# Altium schematic symbol library Schlib_Xilinx.SchLib: 18 symbols (part 1 of 5)
Pins are listed as number, name and electrical type; pins without a type are passive.

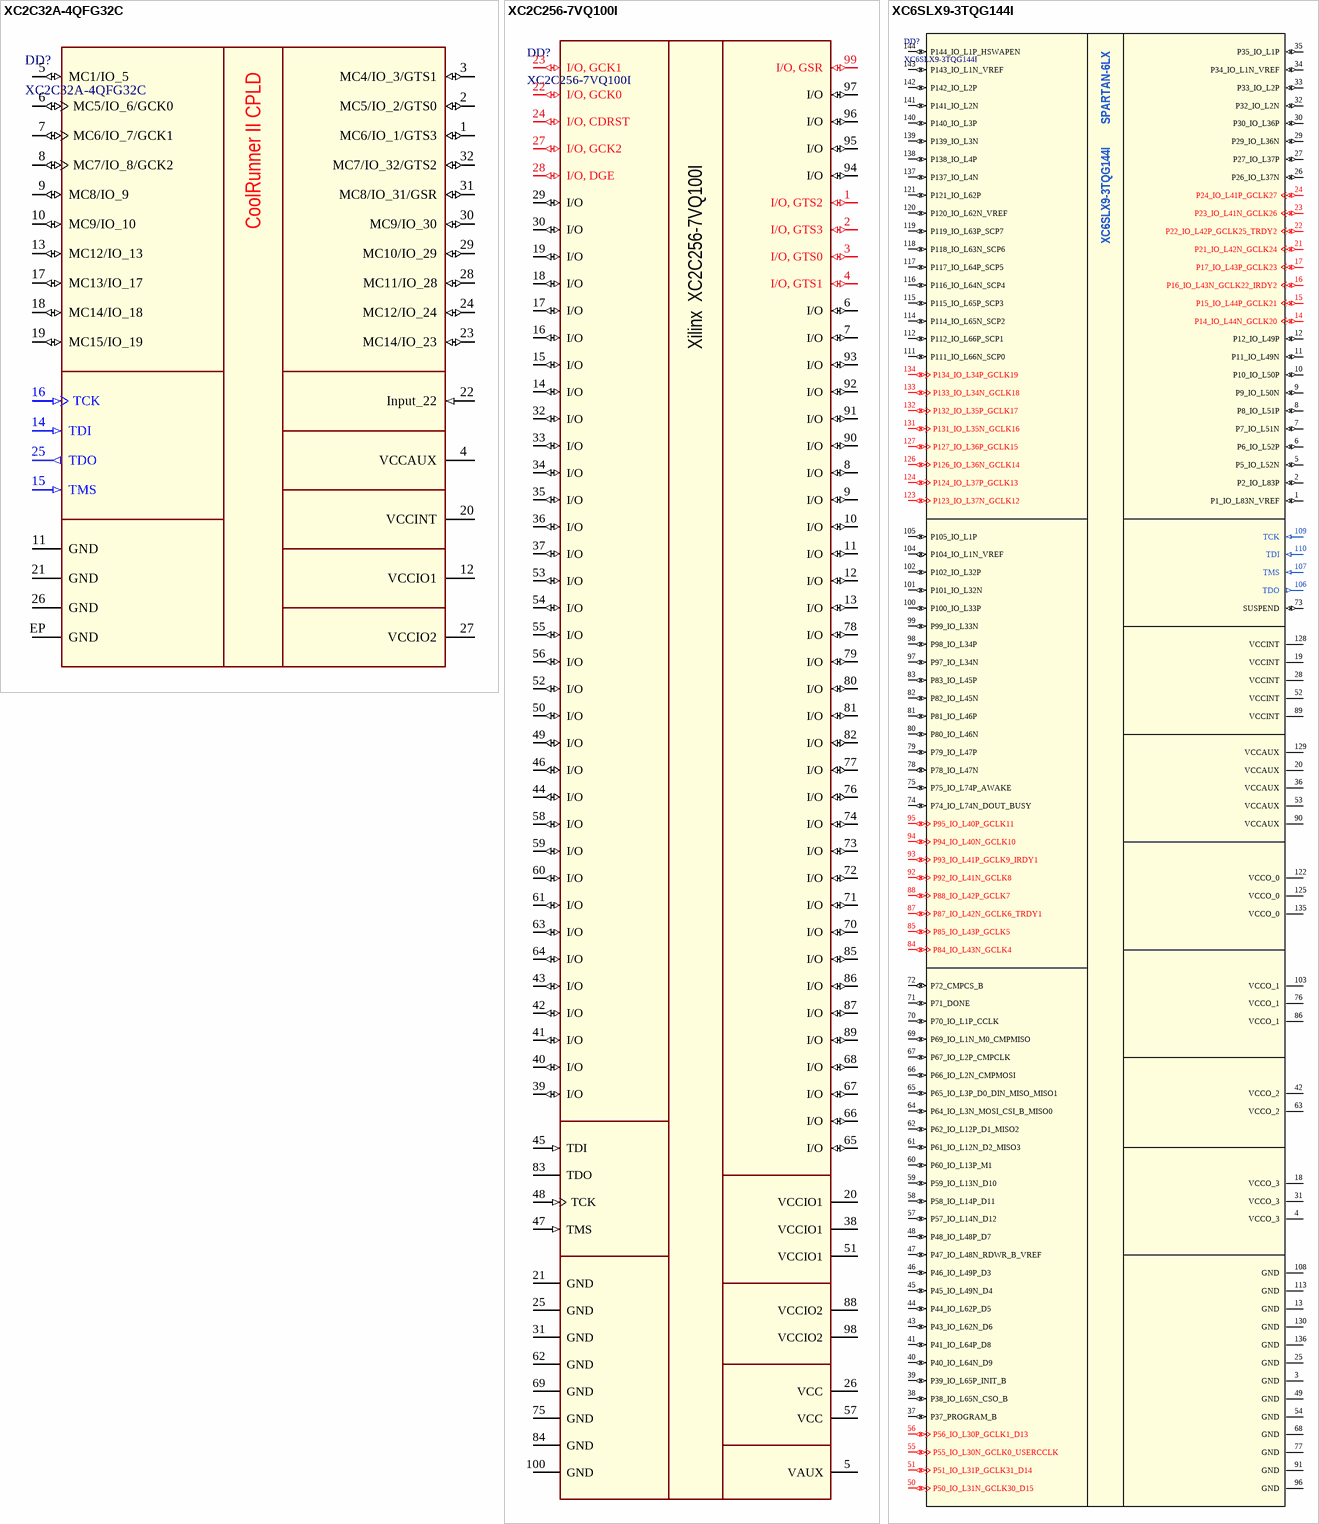
[diagram p0: symbols XC2C32A-4QFG32C to XC6SLX9-3TQG144I]

## XC2C32A-4QFG32C
designator DD?
32 Macrocell CoolRunner II CPLD; Manufacturer: Xilinx; Speed Grade: -4; Part Number: XC2C32A-4QFG32C; ComponentLink1Description: Datasheet; ComponentLink1URL: http://www.xilinx.com/support/documentation/data_sheets/ds180_7Series_Overview.pdf; ComponentLink2Description: Package Specification; ComponentLink2URL: http://www.xilinx.com/support/documentation/user_guides/ug475_7Series_Pkg_Pinout.pdf
footprint QFN32 (QFN, 32-Leads, Body 5.00x5.00mm, Pitch 0.50mm, Thermal Pad 3.50x3.50mm, IPC Medium Density)
pins: 1 MC6/IO_1/GTS3 (io), 2 MC5/IO_2/GTS0 (io), 3 MC4/IO_3/GTS1 (io), 4 VCCAUX (power), 5 MC1/IO_5 (io), 6 MC5/IO_6/GCK0 (io), 7 MC6/IO_7/GCK1 (io), 8 MC7/IO_8/GCK2 (io), 9 MC8/IO_9 (io), 10 MC9/IO_10 (io), 11 GND (power), 12 VCCIO1 (power), 13 MC12/IO_13 (io), 14 TDI (in), 15 TMS (in), 16 TCK (in), 17 MC13/IO_17 (io), 18 MC14/IO_18 (io), 19 MC15/IO_19 (io), 20 VCCINT (power), 21 GND (power), 22 Input_22 (in), 23 MC14/IO_23 (io), 24 MC12/IO_24 (io), 25 TDO (out), 26 GND (power), 27 VCCIO2 (power), 28 MC11/IO_28 (io), 29 MC10/IO_29 (io), 30 MC9/IO_30 (io), 31 MC8/IO_31/GSR (io), 32 MC7/IO_32/GTS2 (io), EP GND (power)
text: CoolRunner II CPLD

## XC2C256-7VQ100I
designator DD?
256 Macrocell CoolRunner II CPLD; Manufacturer: Xilinx; Speed Grade: -7; Part Number: XC2C256-7VQ100I; ComponentLink1Description: Datasheet; ComponentLink1URL: http://www.xilinx.com/support/documentation/data_sheets/ds180_7Series_Overview.pdf; ComponentLink2Description: Package Specification; ComponentLink2URL: http://www.xilinx.com/support/documentation/user_guides/ug475_7Series_Pkg_Pinout.pdf
footprint TQFP100 (Thin QFP, 100-Leads, Body 14x14mm, Pitch 0.5mm, IPC Low Density)
pins: 1 I/O, GTS2 (io), 2 I/O, GTS3 (io), 3 I/O, GTS0 (io), 4 I/O, GTS1 (io), 5 VAUX (power), 6 I/O (io), 7 I/O (io), 8 I/O (io), 9 I/O (io), 10 I/O (io), 11 I/O (io), 12 I/O (io), 13 I/O (io), 14 I/O (io), 15 I/O (io), 16 I/O (io), 17 I/O (io), 18 I/O (io), 19 I/O (io), 20 VCCIO1 (power), 21 GND (power), 22 I/O, GCK0 (io), 23 I/O, GCK1 (io), 24 I/O, CDRST (io), 25 GND (power), 26 VCC (power), 27 I/O, GCK2 (io), 28 I/O, DGE (io), 29 I/O (io), 30 I/O (io), 31 GND (power), 32 I/O (io), 33 I/O (io), 34 I/O (io), 35 I/O (io), 36 I/O (io), 37 I/O (io), 38 VCCIO1 (power), 39 I/O (io), 40 I/O (io), 41 I/O (io), 42 I/O (io), 43 I/O (io), 44 I/O (io), 45 TDI (in), 46 I/O (io), 47 TMS (in), 48 TCK (in), 49 I/O (io), 50 I/O (io), 51 VCCIO1 (power), 52 I/O (io), 53 I/O (io), 54 I/O (io), 55 I/O (io), 56 I/O (io), 57 VCC (power), 58 I/O (io), 59 I/O (io), 60 I/O (io), 61 I/O (io), 62 GND (power), 63 I/O (io), 64 I/O (io), 65 I/O (io), 66 I/O (io), 67 I/O (io), 68 I/O (io), 69 GND (power), 70 I/O (io), 71 I/O (io), 72 I/O (io), 73 I/O (io), 74 I/O (io), 75 GND (power), 76 I/O (io), 77 I/O (io), 78 I/O (io), 79 I/O (io), 80 I/O (io), 81 I/O (io), 82 I/O (io), 83 TDO, 84 GND (power), 85 I/O (io), 86 I/O (io), 87 I/O (io), 88 VCCIO2 (power), 89 I/O (io), 90 I/O (io), 91 I/O (io), 92 I/O (io), 93 I/O (io), 94 I/O (io), 95 I/O (io), 96 I/O (io), 97 I/O (io), 98 VCCIO2 (power), 99 I/O, GSR (io), 100 GND (power)
text: Xilinx  XC2C256-7VQ100I

## XC6SLX9-3TQG144I
designator DD?
FPGA Spartan-6 LX; Manufacturer: Xilinx; Speed Grade: -3; Part Number: XC6SLX9-3TQG144I; ComponentLink1Description: Datasheet; ComponentLink1URL: http://www.xilinx.com/support/documentation/data_sheets/ds180_7Series_Overview.pdf; ComponentLink2Description: Package Specification; ComponentLink2URL: http://www.xilinx.com/support/documentation/user_guides/ug475_7Series_Pkg_Pinout.pdf
footprint LQFP-144 (TSQFP, 144-Leads, Body 20,00x20,00mm, Pitch 0,50mm, IPC Medium Density)
pins: 1 P1_IO_L83N_VREF (io), 2 P2_IO_L83P (io), 3 GND (power), 4 VCCO_3 (power), 5 P5_IO_L52N (io), 6 P6_IO_L52P (io), 7 P7_IO_L51N (io), 8 P8_IO_L51P (io), 9 P9_IO_L50N (io), 10 P10_IO_L50P (io), 11 P11_IO_L49N (io), 12 P12_IO_L49P (io), 13 GND (power), 14 P14_IO_L44N_GCLK20 (io), 15 P15_IO_L44P_GCLK21 (io), 16 P16_IO_L43N_GCLK22_IRDY2 (io), 17 P17_IO_L43P_GCLK23 (io), 18 VCCO_3 (power), 19 VCCINT (power), 20 VCCAUX (power), 21 P21_IO_L42N_GCLK24 (io), 22 P22_IO_L42P_GCLK25_TRDY2 (io), 23 P23_IO_L41N_GCLK26 (io), 24 P24_IO_L41P_GCLK27 (io), 25 GND (power), 26 P26_IO_L37N (io), 27 P27_IO_L37P (io), 28 VCCINT (power), 29 P29_IO_L36N (io), 30 P30_IO_L36P (io), 31 VCCO_3 (power), 32 P32_IO_L2N (io), 33 P33_IO_L2P (io), 34 P34_IO_L1N_VREF (io), 35 P35_IO_L1P (io), 36 VCCAUX (power), 37 P37_PROGRAM_B (io), 38 P38_IO_L65N_CSO_B (io), 39 P39_IO_L65P_INIT_B (io), 40 P40_IO_L64N_D9 (io), 41 P41_IO_L64P_D8 (io), 42 VCCO_2 (power), 43 P43_IO_L62N_D6 (io), 44 P44_IO_L62P_D5 (io), 45 P45_IO_L49N_D4 (io), 46 P46_IO_L49P_D3 (io), 47 P47_IO_L48N_RDWR_B_VREF (io), 48 P48_IO_L48P_D7 (io), 49 GND (power), 50 P50_IO_L31N_GCLK30_D15 (io), 51 P51_IO_L31P_GCLK31_D14 (io), 52 VCCINT (power), 53 VCCAUX (power), 54 GND (power), 55 P55_IO_L30N_GCLK0_USERCCLK (io), 56 P56_IO_L30P_GCLK1_D13 (io), 57 P57_IO_L14N_D12 (io), 58 P58_IO_L14P_D11 (io), 59 P59_IO_L13N_D10 (io), 60 P60_IO_L13P_M1 (io), 61 P61_IO_L12N_D2_MISO3 (io), 62 P62_IO_L12P_D1_MISO2 (io), 63 VCCO_2 (power), 64 P64_IO_L3N_MOSI_CSI_B_MISO0 (io), 65 P65_IO_L3P_D0_DIN_MISO_MISO1 (io), 66 P66_IO_L2N_CMPMOSI (io), 67 P67_IO_L2P_CMPCLK (io), 68 GND (power), 69 P69_IO_L1N_M0_CMPMISO (io), 70 P70_IO_L1P_CCLK (io), 71 P71_DONE (io), 72 P72_CMPCS_B (io), 73 SUSPEND (io), 74 P74_IO_L74N_DOUT_BUSY (io), 75 P75_IO_L74P_AWAKE (io), 76 VCCO_1 (power), 77 GND (power), 78 P78_IO_L47N (io), 79 P79_IO_L47P (io), 80 P80_IO_L46N (io), 81 P81_IO_L46P (io), 82 P82_IO_L45N (io), 83 P83_IO_L45P (io), 84 P84_IO_L43N_GCLK4 (io), 85 P85_IO_L43P_GCLK5 (io), 86 VCCO_1 (power), 87 P87_IO_L42N_GCLK6_TRDY1 (io), 88 P88_IO_L42P_GCLK7 (io), 89 VCCINT (power), 90 VCCAUX (power), 91 GND (power), 92 P92_IO_L41N_GCLK8 (io), 93 P93_IO_L41P_GCLK9_IRDY1 (io), 94 P94_IO_L40N_GCLK10 (io), 95 P95_IO_L40P_GCLK11 (io), 96 GND (power), 97 P97_IO_L34N (io), 98 P98_IO_L34P (io), 99 P99_IO_L33N (io), 100 P100_IO_L33P (io), 101 P101_IO_L32N (io), 102 P102_IO_L32P (io), 103 VCCO_1 (power), 104 P104_IO_L1N_VREF (io), 105 P105_IO_L1P (io), 106 TDO (out), 107 TMS (in), 108 GND (power), 109 TCK (in), 110 TDI (in), 111 P111_IO_L66N_SCP0 (io), 112 P112_IO_L66P_SCP1 (io), 113 GND (power), 114 P114_IO_L65N_SCP2 (io), 115 P115_IO_L65P_SCP3 (io), 116 P116_IO_L64N_SCP4 (io), 117 P117_IO_L64P_SCP5 (io), 118 P118_IO_L63N_SCP6 (io), 119 P119_IO_L63P_SCP7 (io), 120 P120_IO_L62N_VREF (io), 121 P121_IO_L62P (io), 122 VCCO_0 (power), 123 P123_IO_L37N_GCLK12 (io), 124 P124_IO_L37P_GCLK13 (io), 125 VCCO_0 (power), 126 P126_IO_L36N_GCLK14 (io), 127 P127_IO_L36P_GCLK15 (io), 128 VCCINT (power), 129 VCCAUX (power), 130 GND (power), 131 P131_IO_L35N_GCLK16 (io), 132 P132_IO_L35P_GCLK17 (io), 133 P133_IO_L34N_GCLK18 (io), 134 P134_IO_L34P_GCLK19 (io), 135 VCCO_0 (power), 136 GND (power), 137 P137_IO_L4N (io), 138 P138_IO_L4P (io), 139 P139_IO_L3N (io), 140 P140_IO_L3P (io), 141 P141_IO_L2N (io), 142 P142_IO_L2P (io), 143 P143_IO_L1N_VREF (io), 144 P144_IO_L1P_HSWAPEN (io)
text: SPARTAN-6LX

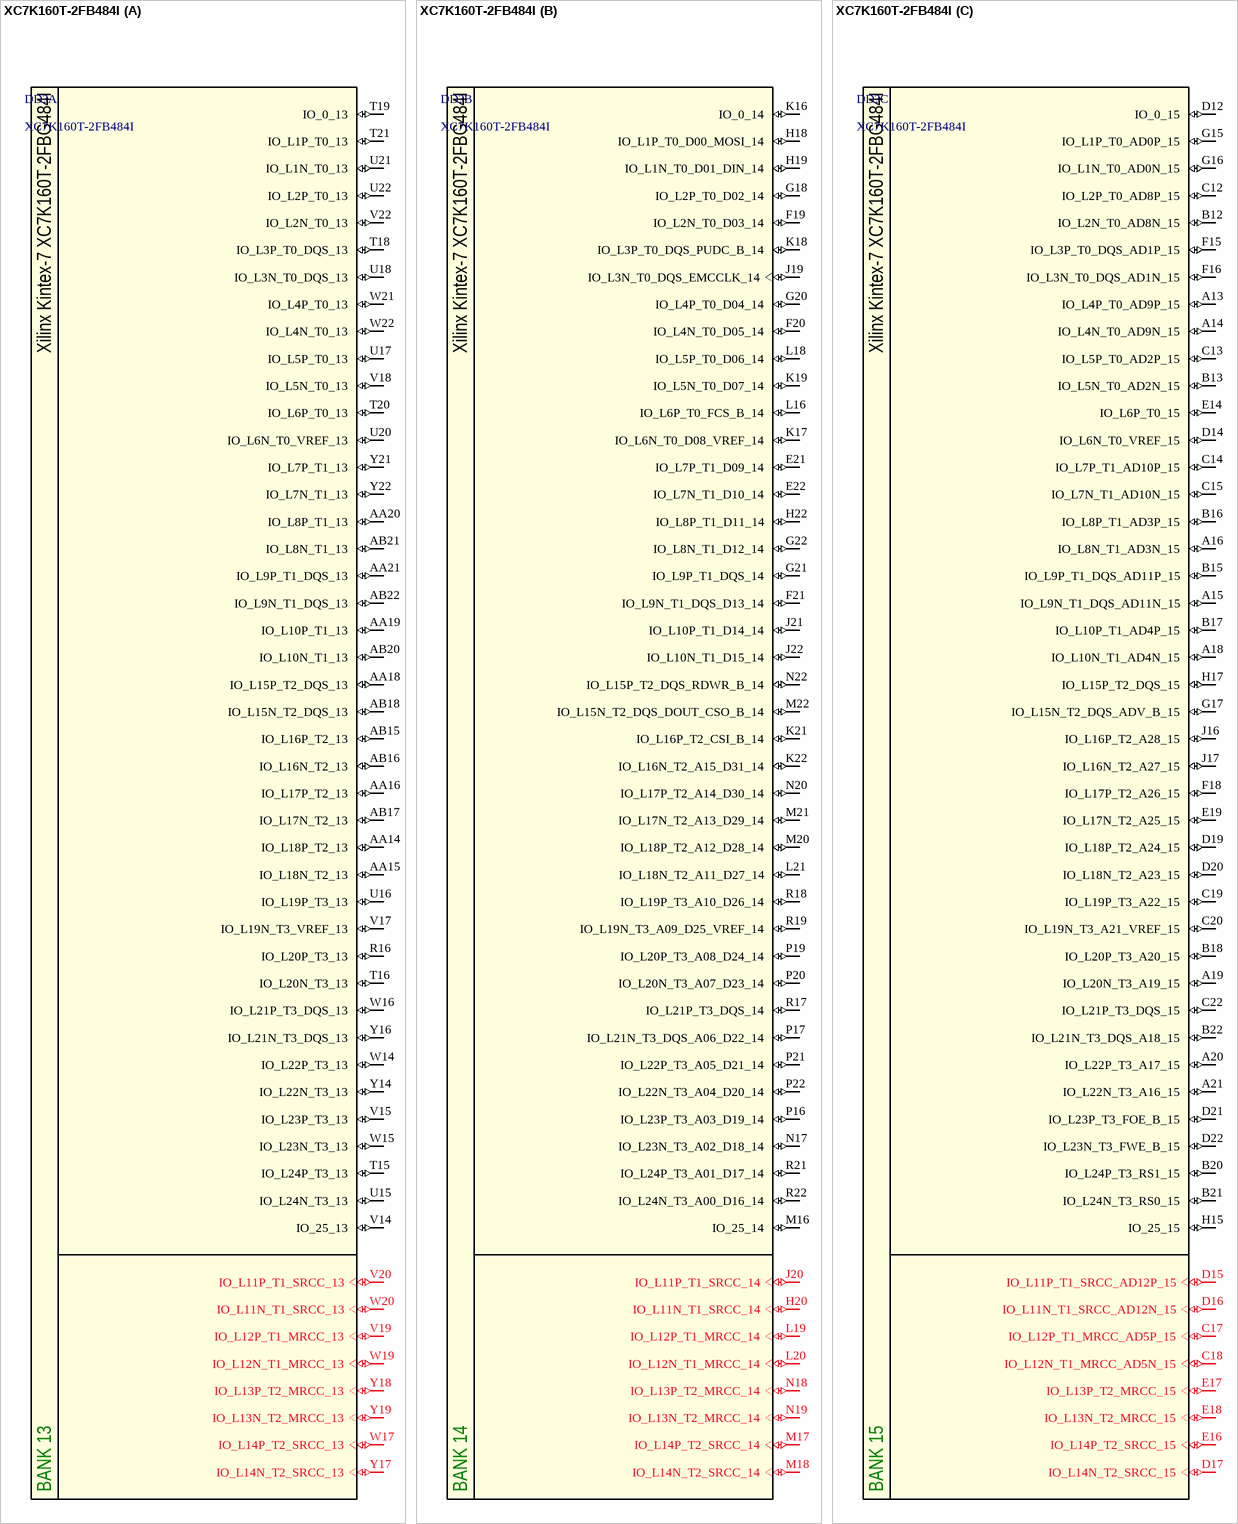
[diagram p1: symbol XC7K160T-2FB484I]

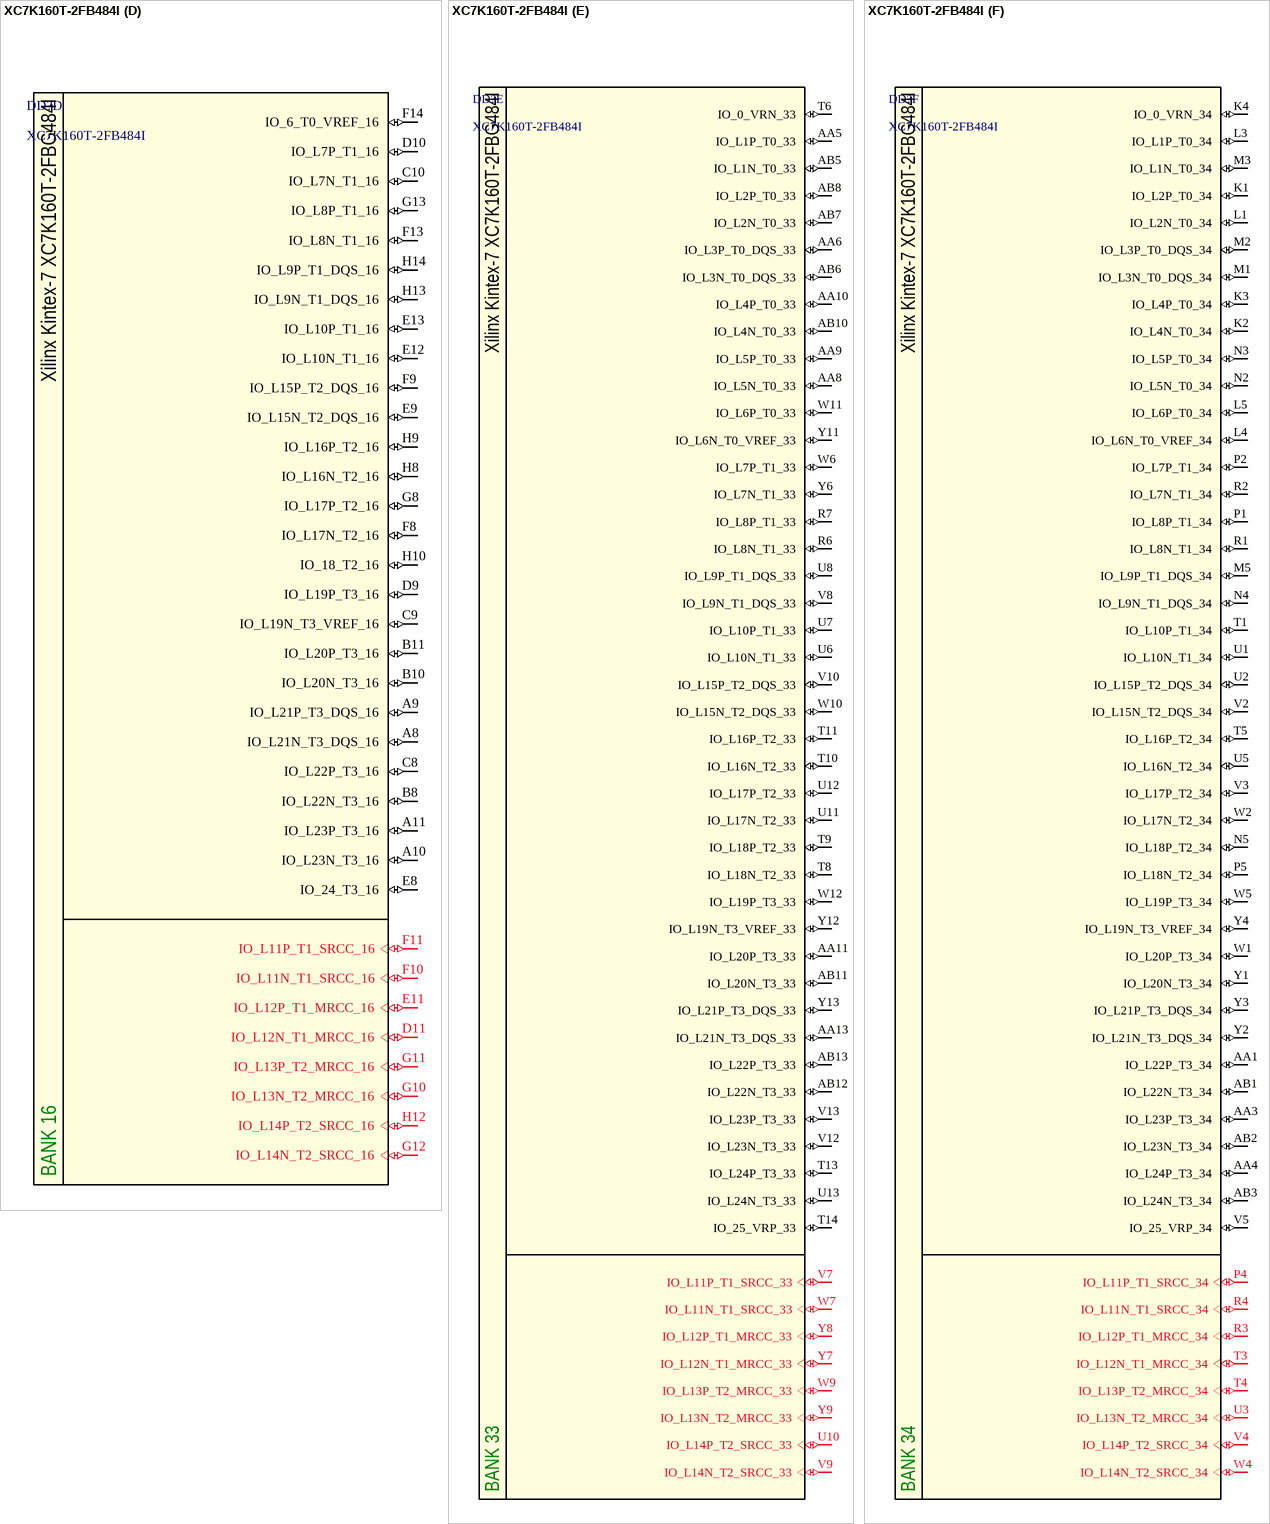
[diagram p2: symbol XC7K160T-2FB484I]

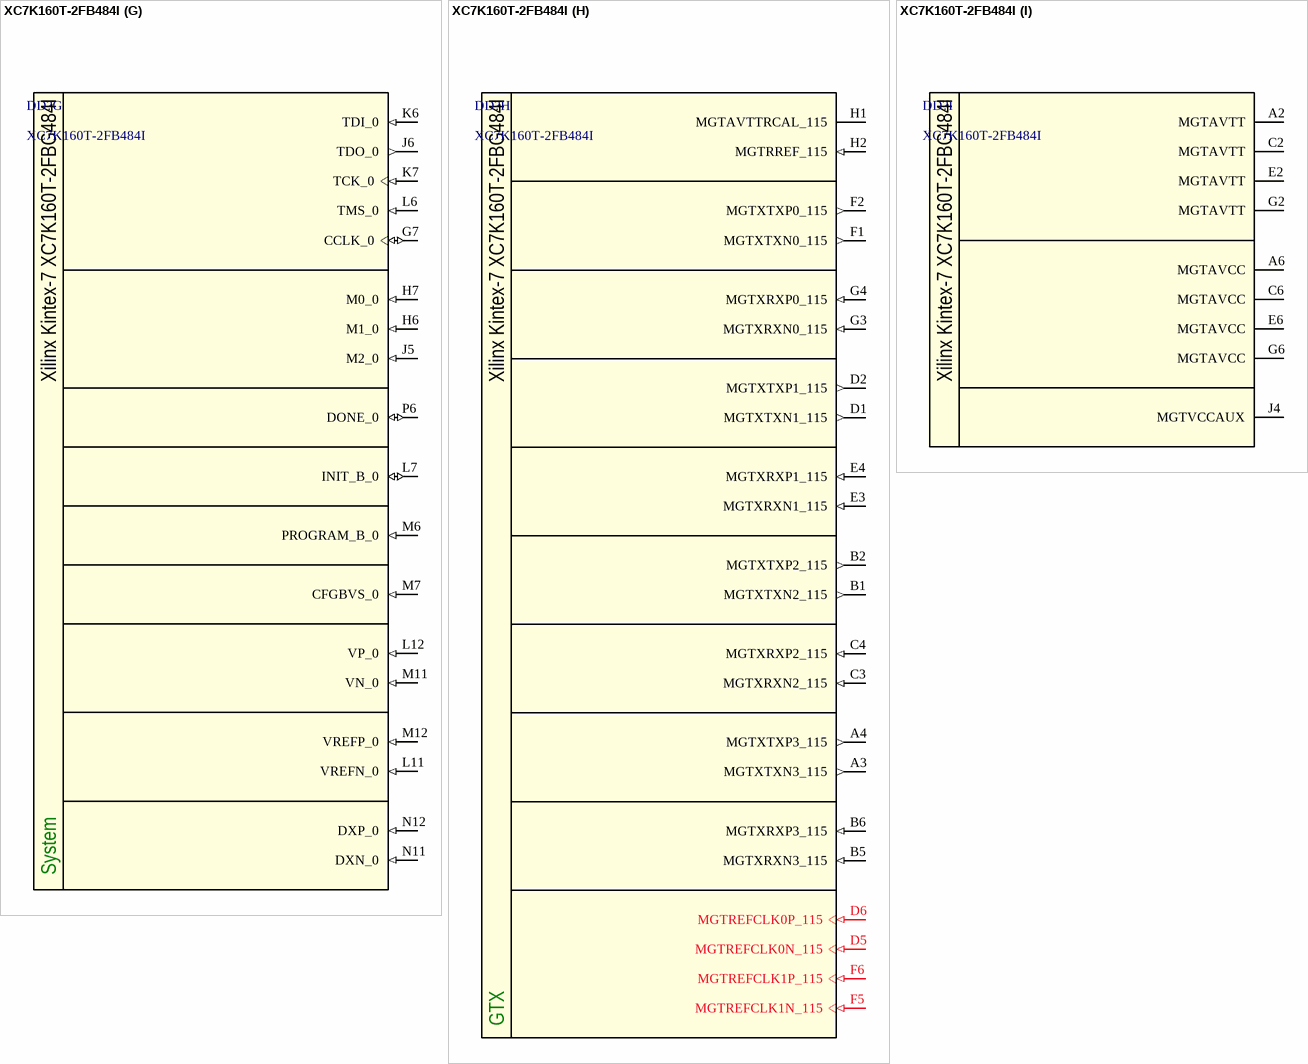
[diagram p3: symbol XC7K160T-2FB484I]

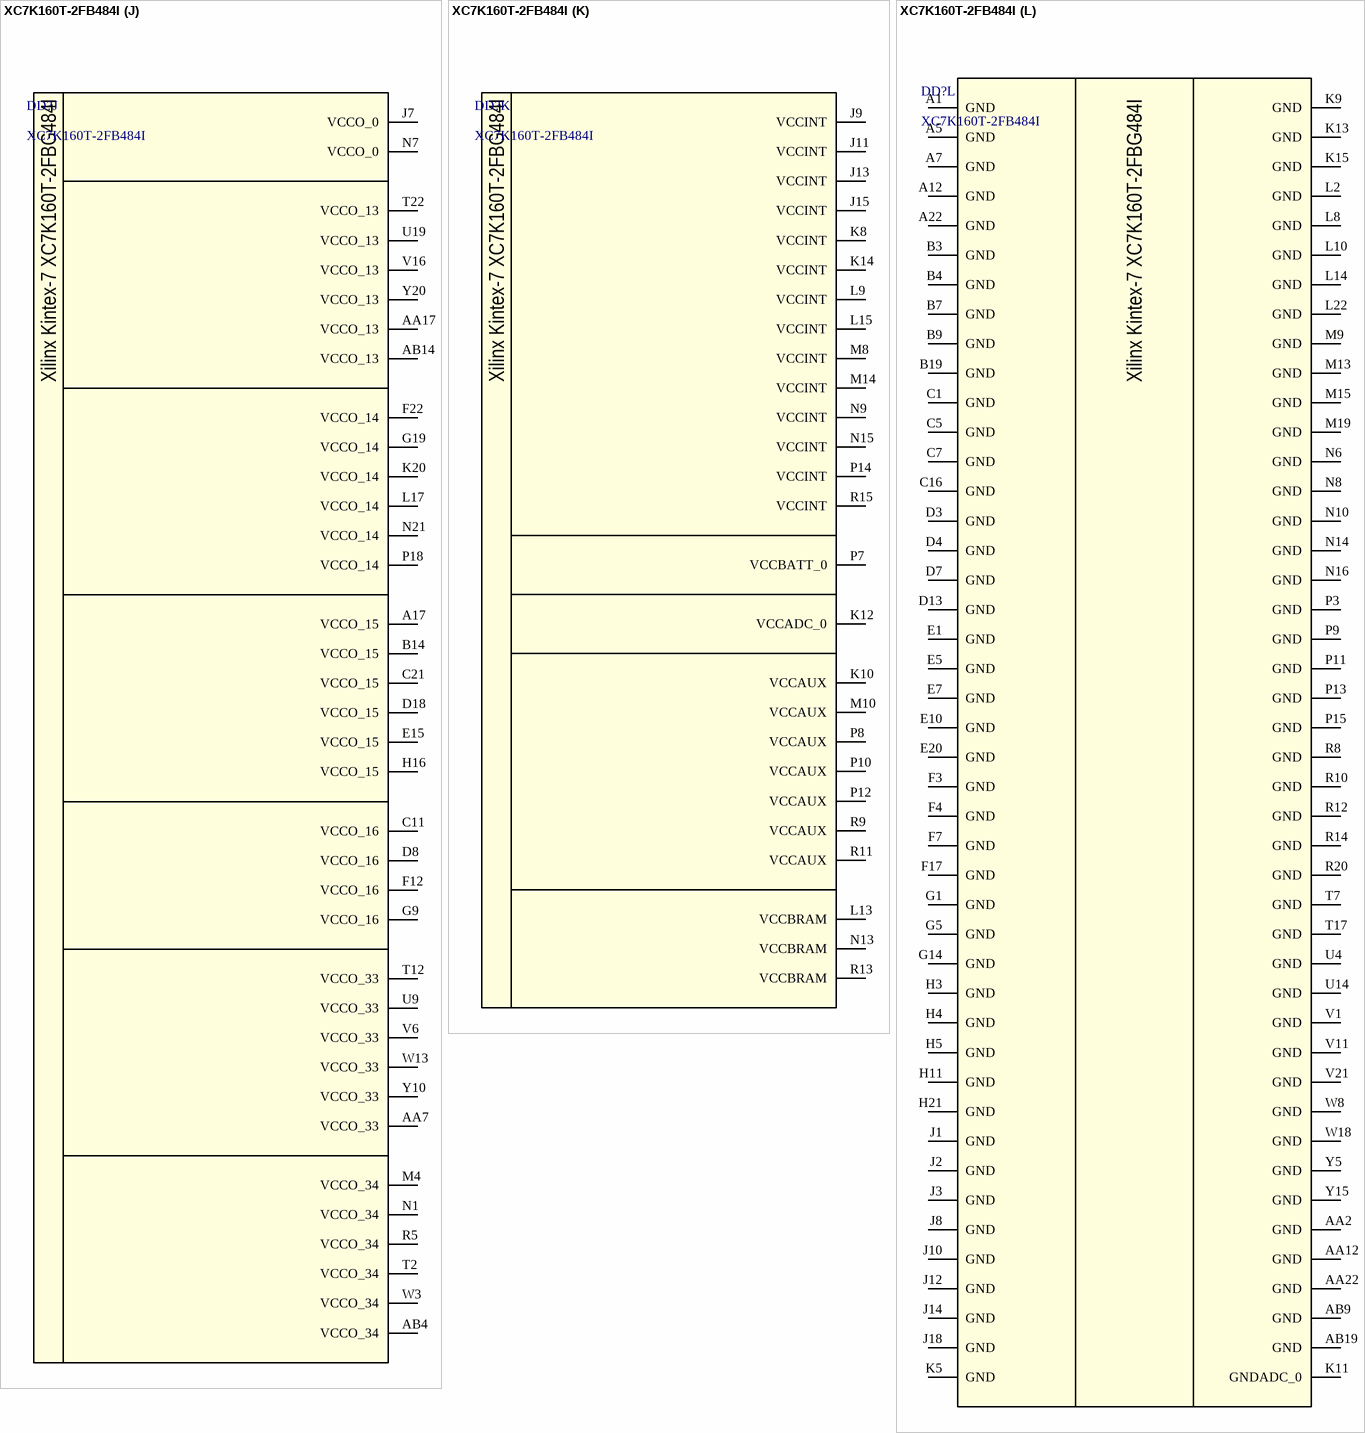
[diagram p4: symbol XC7K160T-2FB484I]

## XC7K160T-2FB484I
designator DD?
Kintex-7 FPGA, 285 User I/Os, 4 GTX, 484-Ball BGA, Speed Grade 2, Industrial Grade, Pb-Free; Manufacturer: Xilinx; GTX: 4; SelectIO HP: 100; SelectIO HR: 185; Speed Grade: -2; DatasheetVersion: v1.12; PackageVersion: Rev 1.8; PackageReference: FBG484; PackageDescription: 1.0 mm Pitch Flip-Chip Lidless BGA (FBG484); Generic Part Number: XC7K160T; Mounting Technology: Surface Mount; Code_JEDEC: MS-034; Part Number: XC7K160T-2FB484I; ComponentLink1Description: Datasheet; ComponentLink1URL: http://www.xilinx.com/support/documentation/data_sheets/ds180_7Series_Overview.pdf; ComponentLink2Description: Package Specification; ComponentLink2URL: http://www.xilinx.com/support/documentation/user_guides/ug475_7Series_Pkg_Pinout.pdf
footprint FB484 (FB484, Kintex-7 FPGAs Flip-Chip Lidless BGA (1.0 mm Pitch))
part A pins: AA14 IO_L18P_T2_13 (io), AA15 IO_L18N_T2_13 (io), AA16 IO_L17P_T2_13 (io), AA18 IO_L15P_T2_DQS_13 (io), AA19 IO_L10P_T1_13 (io), AA20 IO_L8P_T1_13 (io), AA21 IO_L9P_T1_DQS_13 (io), AB15 IO_L16P_T2_13 (io), AB16 IO_L16N_T2_13 (io), AB17 IO_L17N_T2_13 (io), AB18 IO_L15N_T2_DQS_13 (io), AB20 IO_L10N_T1_13 (io), AB21 IO_L8N_T1_13 (io), AB22 IO_L9N_T1_DQS_13 (io), R16 IO_L20P_T3_13 (io), T15 IO_L24P_T3_13 (io), T16 IO_L20N_T3_13 (io), T18 IO_L3P_T0_DQS_13 (io), T19 IO_0_13 (io), T20 IO_L6P_T0_13 (io), T21 IO_L1P_T0_13 (io), U15 IO_L24N_T3_13 (io), U16 IO_L19P_T3_13 (io), U17 IO_L5P_T0_13 (io), U18 IO_L3N_T0_DQS_13 (io), U20 IO_L6N_T0_VREF_13 (io), U21 IO_L1N_T0_13 (io), U22 IO_L2P_T0_13 (io), V14 IO_25_13 (io), V15 IO_L23P_T3_13 (io), V17 IO_L19N_T3_VREF_13 (io), V18 IO_L5N_T0_13 (io), V19 IO_L12P_T1_MRCC_13 (io), V20 IO_L11P_T1_SRCC_13 (io), V22 IO_L2N_T0_13 (io), W14 IO_L22P_T3_13 (io), W15 IO_L23N_T3_13 (io), W16 IO_L21P_T3_DQS_13 (io), W17 IO_L14P_T2_SRCC_13 (io), W19 IO_L12N_T1_MRCC_13 (io), W20 IO_L11N_T1_SRCC_13 (io), W21 IO_L4P_T0_13 (io), W22 IO_L4N_T0_13 (io), Y14 IO_L22N_T3_13 (io), Y16 IO_L21N_T3_DQS_13 (io), Y17 IO_L14N_T2_SRCC_13 (io), Y18 IO_L13P_T2_MRCC_13 (io), Y19 IO_L13N_T2_MRCC_13 (io), Y21 IO_L7P_T1_13 (io), Y22 IO_L7N_T1_13 (io)
part B pins: E21 IO_L7P_T1_D09_14 (io), E22 IO_L7N_T1_D10_14 (io), F19 IO_L2N_T0_D03_14 (io), F20 IO_L4N_T0_D05_14 (io), F21 IO_L9N_T1_DQS_D13_14 (io), G18 IO_L2P_T0_D02_14 (io), G20 IO_L4P_T0_D04_14 (io), G21 IO_L9P_T1_DQS_14 (io), G22 IO_L8N_T1_D12_14 (io), H18 IO_L1P_T0_D00_MOSI_14 (io), H19 IO_L1N_T0_D01_DIN_14 (io), H20 IO_L11N_T1_SRCC_14 (io), H22 IO_L8P_T1_D11_14 (io), J19 IO_L3N_T0_DQS_EMCCLK_14 (io), J20 IO_L11P_T1_SRCC_14 (io), J21 IO_L10P_T1_D14_14 (io), J22 IO_L10N_T1_D15_14 (io), K16 IO_0_14 (io), K17 IO_L6N_T0_D08_VREF_14 (io), K18 IO_L3P_T0_DQS_PUDC_B_14 (io), K19 IO_L5N_T0_D07_14 (io), K21 IO_L16P_T2_CSI_B_14 (io), K22 IO_L16N_T2_A15_D31_14 (io), L16 IO_L6P_T0_FCS_B_14 (io), L18 IO_L5P_T0_D06_14 (io), L19 IO_L12P_T1_MRCC_14 (io), L20 IO_L12N_T1_MRCC_14 (io), L21 IO_L18N_T2_A11_D27_14 (io), M16 IO_25_14 (io), M17 IO_L14P_T2_SRCC_14 (io), M18 IO_L14N_T2_SRCC_14 (io), M20 IO_L18P_T2_A12_D28_14 (io), M21 IO_L17N_T2_A13_D29_14 (io), M22 IO_L15N_T2_DQS_DOUT_CSO_B_14 (io), N17 IO_L23N_T3_A02_D18_14 (io), N18 IO_L13P_T2_MRCC_14 (io), N19 IO_L13N_T2_MRCC_14 (io), N20 IO_L17P_T2_A14_D30_14 (io), N22 IO_L15P_T2_DQS_RDWR_B_14 (io), P16 IO_L23P_T3_A03_D19_14 (io), P17 IO_L21N_T3_DQS_A06_D22_14 (io), P19 IO_L20P_T3_A08_D24_14 (io), P20 IO_L20N_T3_A07_D23_14 (io), P21 IO_L22P_T3_A05_D21_14 (io), P22 IO_L22N_T3_A04_D20_14 (io), R17 IO_L21P_T3_DQS_14 (io), R18 IO_L19P_T3_A10_D26_14 (io), R19 IO_L19N_T3_A09_D25_VREF_14 (io), R21 IO_L24P_T3_A01_D17_14 (io), R22 IO_L24N_T3_A00_D16_14 (io)
part C pins: A13 IO_L4P_T0_AD9P_15 (io), A14 IO_L4N_T0_AD9N_15 (io), A15 IO_L9N_T1_DQS_AD11N_15 (io), A16 IO_L8N_T1_AD3N_15 (io), A18 IO_L10N_T1_AD4N_15 (io), A19 IO_L20N_T3_A19_15 (io), A20 IO_L22P_T3_A17_15 (io), A21 IO_L22N_T3_A16_15 (io), B12 IO_L2N_T0_AD8N_15 (io), B13 IO_L5N_T0_AD2N_15 (io), B15 IO_L9P_T1_DQS_AD11P_15 (io), B16 IO_L8P_T1_AD3P_15 (io), B17 IO_L10P_T1_AD4P_15 (io), B18 IO_L20P_T3_A20_15 (io), B20 IO_L24P_T3_RS1_15 (io), B21 IO_L24N_T3_RS0_15 (io), B22 IO_L21N_T3_DQS_A18_15 (io), C12 IO_L2P_T0_AD8P_15 (io), C13 IO_L5P_T0_AD2P_15 (io), C14 IO_L7P_T1_AD10P_15 (io), C15 IO_L7N_T1_AD10N_15 (io), C17 IO_L12P_T1_MRCC_AD5P_15 (io), C18 IO_L12N_T1_MRCC_AD5N_15 (io), C19 IO_L19P_T3_A22_15 (io), C20 IO_L19N_T3_A21_VREF_15 (io), C22 IO_L21P_T3_DQS_15 (io), D12 IO_0_15 (io), D14 IO_L6N_T0_VREF_15 (io), D15 IO_L11P_T1_SRCC_AD12P_15 (io), D16 IO_L11N_T1_SRCC_AD12N_15 (io), D17 IO_L14N_T2_SRCC_15 (io), D19 IO_L18P_T2_A24_15 (io), D20 IO_L18N_T2_A23_15 (io), D21 IO_L23P_T3_FOE_B_15 (io), D22 IO_L23N_T3_FWE_B_15 (io), E14 IO_L6P_T0_15 (io), E16 IO_L14P_T2_SRCC_15 (io), E17 IO_L13P_T2_MRCC_15 (io), E18 IO_L13N_T2_MRCC_15 (io), E19 IO_L17N_T2_A25_15 (io), F15 IO_L3P_T0_DQS_AD1P_15 (io), F16 IO_L3N_T0_DQS_AD1N_15 (io), F18 IO_L17P_T2_A26_15 (io), G15 IO_L1P_T0_AD0P_15 (io), G16 IO_L1N_T0_AD0N_15 (io), G17 IO_L15N_T2_DQS_ADV_B_15 (io), H15 IO_25_15 (io), H17 IO_L15P_T2_DQS_15 (io), J16 IO_L16P_T2_A28_15 (io), J17 IO_L16N_T2_A27_15 (io)
part D pins: A8 IO_L21N_T3_DQS_16 (io), A9 IO_L21P_T3_DQS_16 (io), A10 IO_L23N_T3_16 (io), A11 IO_L23P_T3_16 (io), B8 IO_L22N_T3_16 (io), B10 IO_L20N_T3_16 (io), B11 IO_L20P_T3_16 (io), C8 IO_L22P_T3_16 (io), C9 IO_L19N_T3_VREF_16 (io), C10 IO_L7N_T1_16 (io), D9 IO_L19P_T3_16 (io), D10 IO_L7P_T1_16 (io), D11 IO_L12N_T1_MRCC_16 (io), E8 IO_24_T3_16 (io), E9 IO_L15N_T2_DQS_16 (io), E11 IO_L12P_T1_MRCC_16 (io), E12 IO_L10N_T1_16 (io), E13 IO_L10P_T1_16 (io), F8 IO_L17N_T2_16 (io), F9 IO_L15P_T2_DQS_16 (io), F10 IO_L11N_T1_SRCC_16 (io), F11 IO_L11P_T1_SRCC_16 (io), F13 IO_L8N_T1_16 (io), F14 IO_6_T0_VREF_16 (io), G8 IO_L17P_T2_16 (io), G10 IO_L13N_T2_MRCC_16 (io), G11 IO_L13P_T2_MRCC_16 (io), G12 IO_L14N_T2_SRCC_16 (io), G13 IO_L8P_T1_16 (io), H8 IO_L16N_T2_16 (io), H9 IO_L16P_T2_16 (io), H10 IO_18_T2_16 (io), H12 IO_L14P_T2_SRCC_16 (io), H13 IO_L9N_T1_DQS_16 (io), H14 IO_L9P_T1_DQS_16 (io)
part E pins: AA5 IO_L1P_T0_33 (io), AA6 IO_L3P_T0_DQS_33 (io), AA8 IO_L5N_T0_33 (io), AA9 IO_L5P_T0_33 (io), AA10 IO_L4P_T0_33 (io), AA11 IO_L20P_T3_33 (io), AA13 IO_L21N_T3_DQS_33 (io), AB5 IO_L1N_T0_33 (io), AB6 IO_L3N_T0_DQS_33 (io), AB7 IO_L2N_T0_33 (io), AB8 IO_L2P_T0_33 (io), AB10 IO_L4N_T0_33 (io), AB11 IO_L20N_T3_33 (io), AB12 IO_L22N_T3_33 (io), AB13 IO_L22P_T3_33 (io), R6 IO_L8N_T1_33 (io), R7 IO_L8P_T1_33 (io), T6 IO_0_VRN_33 (io), T8 IO_L18N_T2_33 (io), T9 IO_L18P_T2_33 (io), T10 IO_L16N_T2_33 (io), T11 IO_L16P_T2_33 (io), T13 IO_L24P_T3_33 (io), T14 IO_25_VRP_33 (io), U6 IO_L10N_T1_33 (io), U7 IO_L10P_T1_33 (io), U8 IO_L9P_T1_DQS_33 (io), U10 IO_L14P_T2_SRCC_33 (io), U11 IO_L17N_T2_33 (io), U12 IO_L17P_T2_33 (io), U13 IO_L24N_T3_33 (io), V7 IO_L11P_T1_SRCC_33 (io), V8 IO_L9N_T1_DQS_33 (io), V9 IO_L14N_T2_SRCC_33 (io), V10 IO_L15P_T2_DQS_33 (io), V12 IO_L23N_T3_33 (io), V13 IO_L23P_T3_33 (io), W6 IO_L7P_T1_33 (io), W7 IO_L11N_T1_SRCC_33 (io), W9 IO_L13P_T2_MRCC_33 (io), W10 IO_L15N_T2_DQS_33 (io), W11 IO_L6P_T0_33 (io), W12 IO_L19P_T3_33 (io), Y6 IO_L7N_T1_33 (io), Y7 IO_L12N_T1_MRCC_33 (io), Y8 IO_L12P_T1_MRCC_33 (io), Y9 IO_L13N_T2_MRCC_33 (io), Y11 IO_L6N_T0_VREF_33 (io), Y12 IO_L19N_T3_VREF_33 (io), Y13 IO_L21P_T3_DQS_33 (io)
part F pins: AA1 IO_L22P_T3_34 (io), AA3 IO_L23P_T3_34 (io), AA4 IO_L24P_T3_34 (io), AB1 IO_L22N_T3_34 (io), AB2 IO_L23N_T3_34 (io), AB3 IO_L24N_T3_34 (io), K1 IO_L2P_T0_34 (io), K2 IO_L4N_T0_34 (io), K3 IO_L4P_T0_34 (io), K4 IO_0_VRN_34 (io), L1 IO_L2N_T0_34 (io), L3 IO_L1P_T0_34 (io), L4 IO_L6N_T0_VREF_34 (io), L5 IO_L6P_T0_34 (io), M1 IO_L3N_T0_DQS_34 (io), M2 IO_L3P_T0_DQS_34 (io), M3 IO_L1N_T0_34 (io), M5 IO_L9P_T1_DQS_34 (io), N2 IO_L5N_T0_34 (io), N3 IO_L5P_T0_34 (io), N4 IO_L9N_T1_DQS_34 (io), N5 IO_L18P_T2_34 (io), P1 IO_L8P_T1_34 (io), P2 IO_L7P_T1_34 (io), P4 IO_L11P_T1_SRCC_34 (io), P5 IO_L18N_T2_34 (io), R1 IO_L8N_T1_34 (io), R2 IO_L7N_T1_34 (io), R3 IO_L12P_T1_MRCC_34 (io), R4 IO_L11N_T1_SRCC_34 (io), T1 IO_L10P_T1_34 (io), T3 IO_L12N_T1_MRCC_34 (io), T4 IO_L13P_T2_MRCC_34 (io), T5 IO_L16P_T2_34 (io), U1 IO_L10N_T1_34 (io), U2 IO_L15P_T2_DQS_34 (io), U3 IO_L13N_T2_MRCC_34 (io), U5 IO_L16N_T2_34 (io), V2 IO_L15N_T2_DQS_34 (io), V3 IO_L17P_T2_34 (io), V4 IO_L14P_T2_SRCC_34 (io), V5 IO_25_VRP_34 (io), W1 IO_L20P_T3_34 (io), W2 IO_L17N_T2_34 (io), W4 IO_L14N_T2_SRCC_34 (io), W5 IO_L19P_T3_34 (io), Y1 IO_L20N_T3_34 (io), Y2 IO_L21N_T3_DQS_34 (io), Y3 IO_L21P_T3_DQS_34 (io), Y4 IO_L19N_T3_VREF_34 (io)
part G pins: G7 CCLK_0 (io), H6 M1_0 (in), H7 M0_0 (in), J5 M2_0 (in), J6 TDO_0 (out), K6 TDI_0 (in), K7 TCK_0 (in), L6 TMS_0 (in), L7 INIT_B_0 (io), L11 VREFN_0 (in), L12 VP_0 (in), M6 PROGRAM_B_0 (in), M7 CFGBVS_0 (in), M11 VN_0 (in), M12 VREFP_0 (in), N11 DXN_0 (in), N12 DXP_0 (in), P6 DONE_0 (io)
part H pins: A3 MGTXTXN3_115 (out), A4 MGTXTXP3_115 (out), B1 MGTXTXN2_115 (out), B2 MGTXTXP2_115 (out), B5 MGTXRXN3_115 (in), B6 MGTXRXP3_115 (in), C3 MGTXRXN2_115 (in), C4 MGTXRXP2_115 (in), D1 MGTXTXN1_115 (out), D2 MGTXTXP1_115 (out), D5 MGTREFCLK0N_115 (in), D6 MGTREFCLK0P_115 (in), E3 MGTXRXN1_115 (in), E4 MGTXRXP1_115 (in), F1 MGTXTXN0_115 (out), F2 MGTXTXP0_115 (out), F5 MGTREFCLK1N_115 (in), F6 MGTREFCLK1P_115 (in), G3 MGTXRXN0_115 (in), G4 MGTXRXP0_115 (in), H1 MGTAVTTRCAL_115, H2 MGTRREF_115 (in)
part I pins: A2 MGTAVTT (power), A6 MGTAVCC (power), C2 MGTAVTT (power), C6 MGTAVCC (power), E2 MGTAVTT (power), E6 MGTAVCC (power), G2 MGTAVTT (power), G6 MGTAVCC (power), J4 MGTVCCAUX (power)
part J pins: A17 VCCO_15 (power), AA7 VCCO_33 (power), AA17 VCCO_13 (power), AB4 VCCO_34 (power), AB14 VCCO_13 (power), B14 VCCO_15 (power), C11 VCCO_16 (power), C21 VCCO_15 (power), D8 VCCO_16 (power), D18 VCCO_15 (power), E15 VCCO_15 (power), F12 VCCO_16 (power), F22 VCCO_14 (power), G9 VCCO_16 (power), G19 VCCO_14 (power), H16 VCCO_15 (power), J7 VCCO_0 (power), K20 VCCO_14 (power), L17 VCCO_14 (power), M4 VCCO_34 (power), N1 VCCO_34 (power), N7 VCCO_0 (power), N21 VCCO_14 (power), P18 VCCO_14 (power), R5 VCCO_34 (power), T2 VCCO_34 (power), T12 VCCO_33 (power), T22 VCCO_13 (power), U9 VCCO_33 (power), U19 VCCO_13 (power), V6 VCCO_33 (power), V16 VCCO_13 (power), W3 VCCO_34 (power), W13 VCCO_33 (power), Y10 VCCO_33 (power), Y20 VCCO_13 (power)
part K pins: J9 VCCINT (power), J11 VCCINT (power), J13 VCCINT (power), J15 VCCINT (power), K8 VCCINT (power), K10 VCCAUX (power), K12 VCCADC_0 (power), K14 VCCINT (power), L9 VCCINT (power), L13 VCCBRAM (power), L15 VCCINT (power), M8 VCCINT (power), M10 VCCAUX (power), M14 VCCINT (power), N9 VCCINT (power), N13 VCCBRAM (power), N15 VCCINT (power), P7 VCCBATT_0 (power), P8 VCCAUX (power), P10 VCCAUX (power), P12 VCCAUX (power), P14 VCCINT (power), R9 VCCAUX (power), R11 VCCAUX (power), R13 VCCBRAM (power), R15 VCCINT (power)
part L pins: A1 GND (power), A5 GND (power), A7 GND (power), A12 GND (power), A22 GND (power), AA2 GND (power), AA12 GND (power), AA22 GND (power), AB9 GND (power), AB19 GND (power), B3 GND (power), B4 GND (power), B7 GND (power), B9 GND (power), B19 GND (power), C1 GND (power), C5 GND (power), C7 GND (power), C16 GND (power), D3 GND (power), D4 GND (power), D7 GND (power), D13 GND (power), E1 GND (power), E5 GND (power), E7 GND (power), E10 GND (power), E20 GND (power), F3 GND (power), F4 GND (power), F7 GND (power), F17 GND (power), G1 GND (power), G5 GND (power), G14 GND (power), H3 GND (power), H4 GND (power), H5 GND (power), H11 GND (power), H21 GND (power), J1 GND (power), J2 GND (power), J3 GND (power), J8 GND (power), J10 GND (power), J12 GND (power), J14 GND (power), J18 GND (power), K5 GND (power), K9 GND (power), K11 GNDADC_0 (power), K13 GND (power), K15 GND (power), L2 GND (power), L8 GND (power), L10 GND (power), L14 GND (power), L22 GND (power), M9 GND (power), M13 GND (power), M15 GND (power), M19 GND (power), N6 GND (power), N8 GND (power), N10 GND (power), N14 GND (power), N16 GND (power), P3 GND (power), P9 GND (power), P11 GND (power), P13 GND (power), P15 GND (power), R8 GND (power), R10 GND (power), R12 GND (power), R14 GND (power), R20 GND (power), T7 GND (power), T17 GND (power), U4 GND (power), U14 GND (power), V1 GND (power), V11 GND (power), V21 GND (power), W8 GND (power), W18 GND (power), Y5 GND (power), Y15 GND (power)
part A text: Xilinx Kintex-7 XC7K160T-2FBG484I; BANK 13
part B text: Xilinx Kintex-7 XC7K160T-2FBG484I; BANK 14
part C text: Xilinx Kintex-7 XC7K160T-2FBG484I; BANK 15
part D text: Xilinx Kintex-7 XC7K160T-2FBG484I; BANK 16
part E text: Xilinx Kintex-7 XC7K160T-2FBG484I; BANK 33
part F text: Xilinx Kintex-7 XC7K160T-2FBG484I; BANK 34
part G text: Xilinx Kintex-7 XC7K160T-2FBG484I; System
part H text: Xilinx Kintex-7 XC7K160T-2FBG484I; GTX
part I text: Xilinx Kintex-7 XC7K160T-2FBG484I
part J text: Xilinx Kintex-7 XC7K160T-2FBG484I
part K text: Xilinx Kintex-7 XC7K160T-2FBG484I
part L text: Xilinx Kintex-7 XC7K160T-2FBG484I

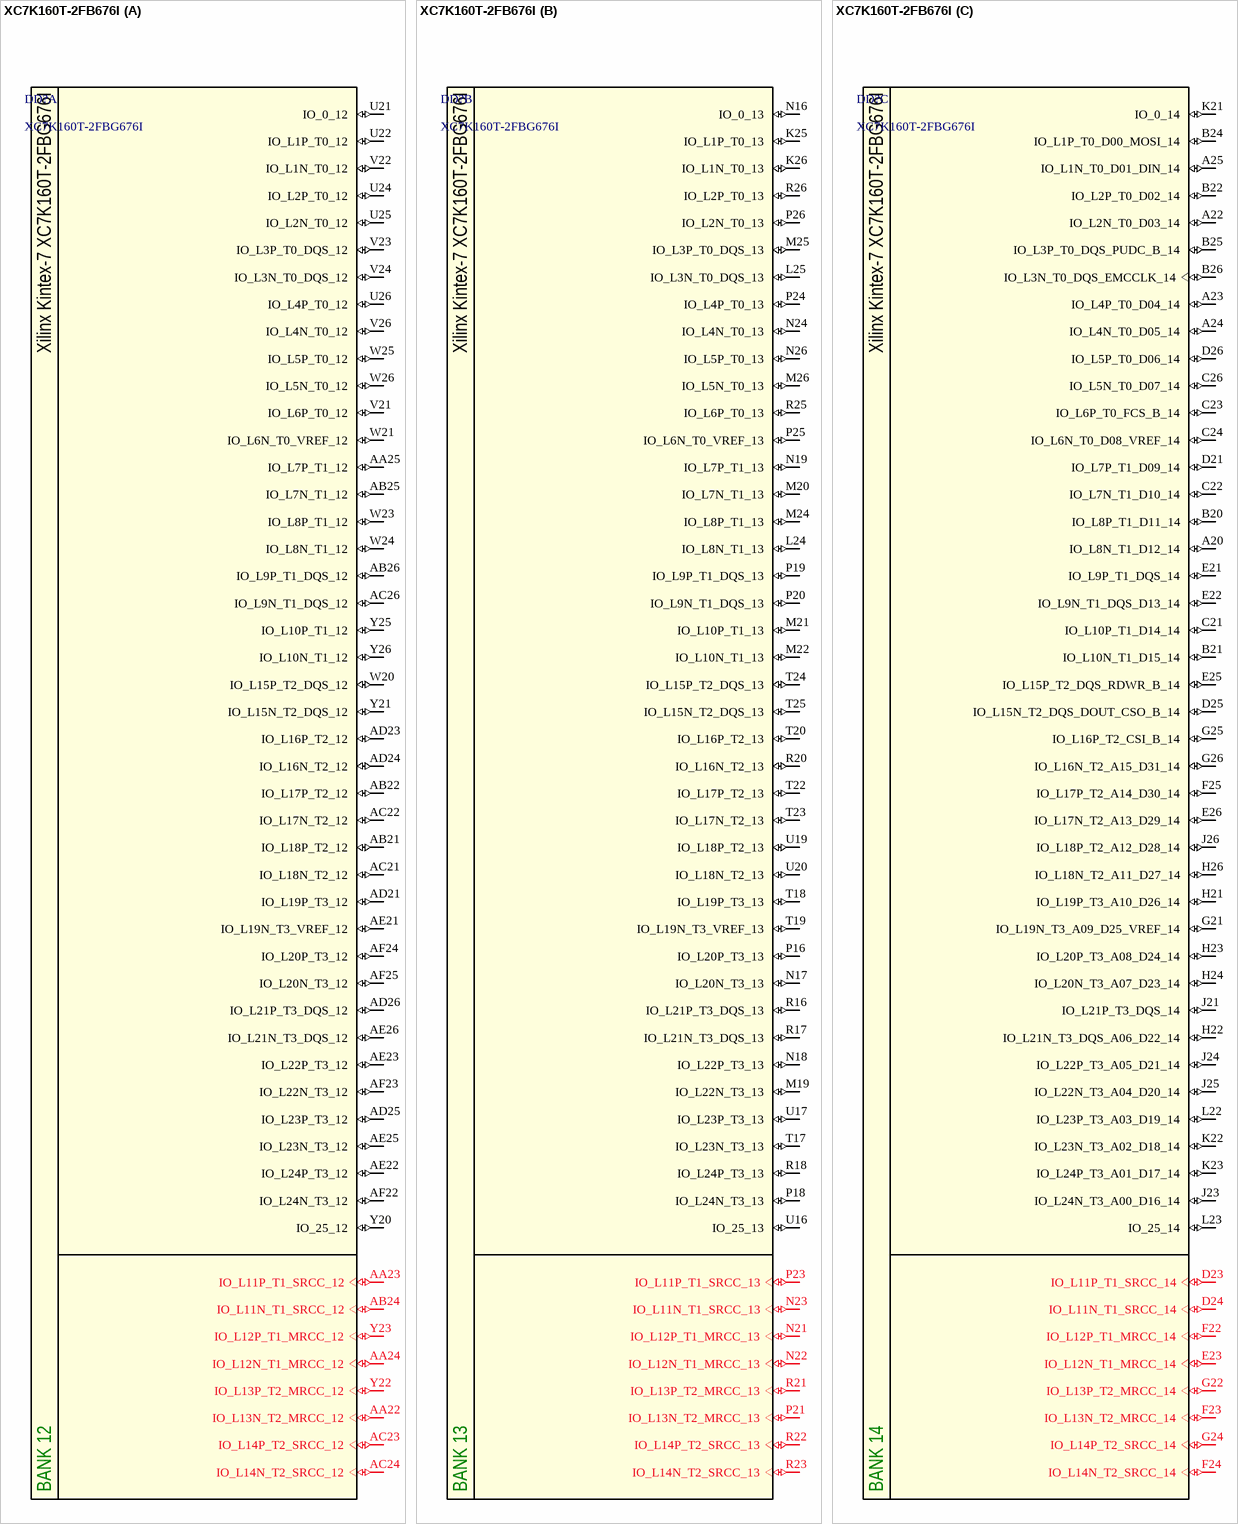
[diagram p5: symbol XC7K160T-2FB676I]

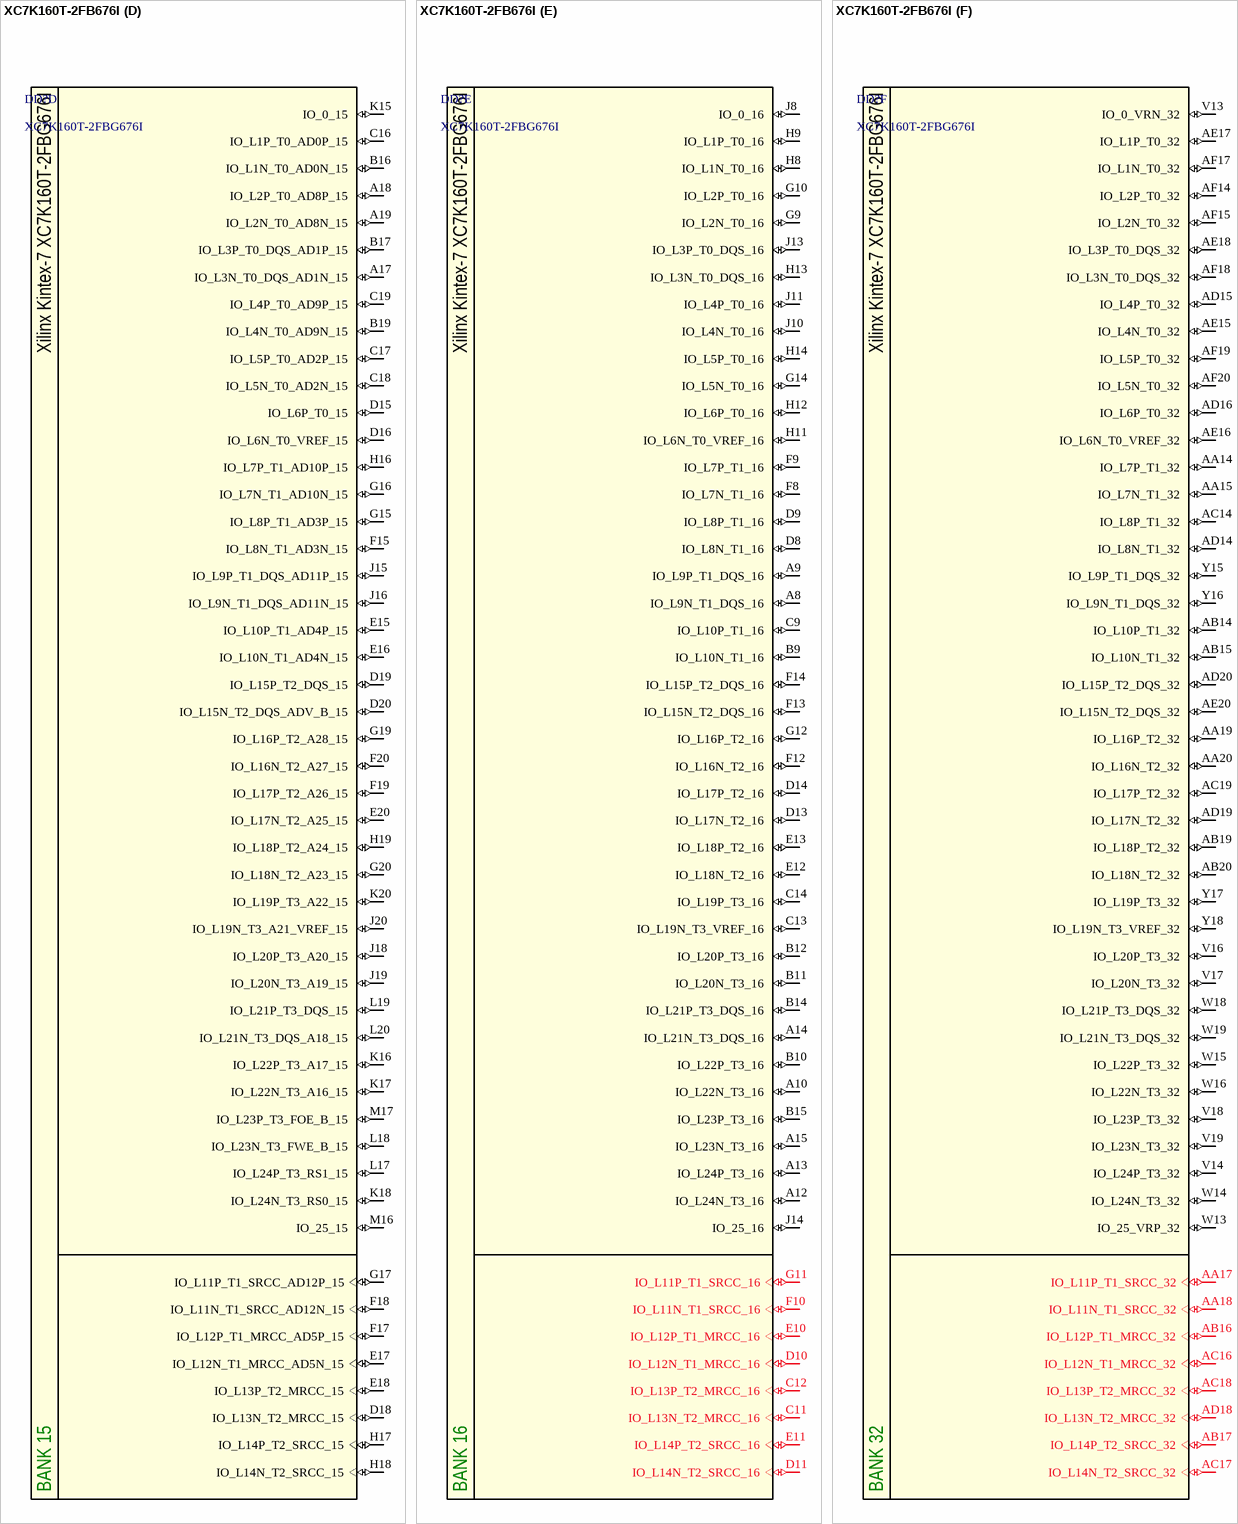
[diagram p6: symbol XC7K160T-2FB676I]

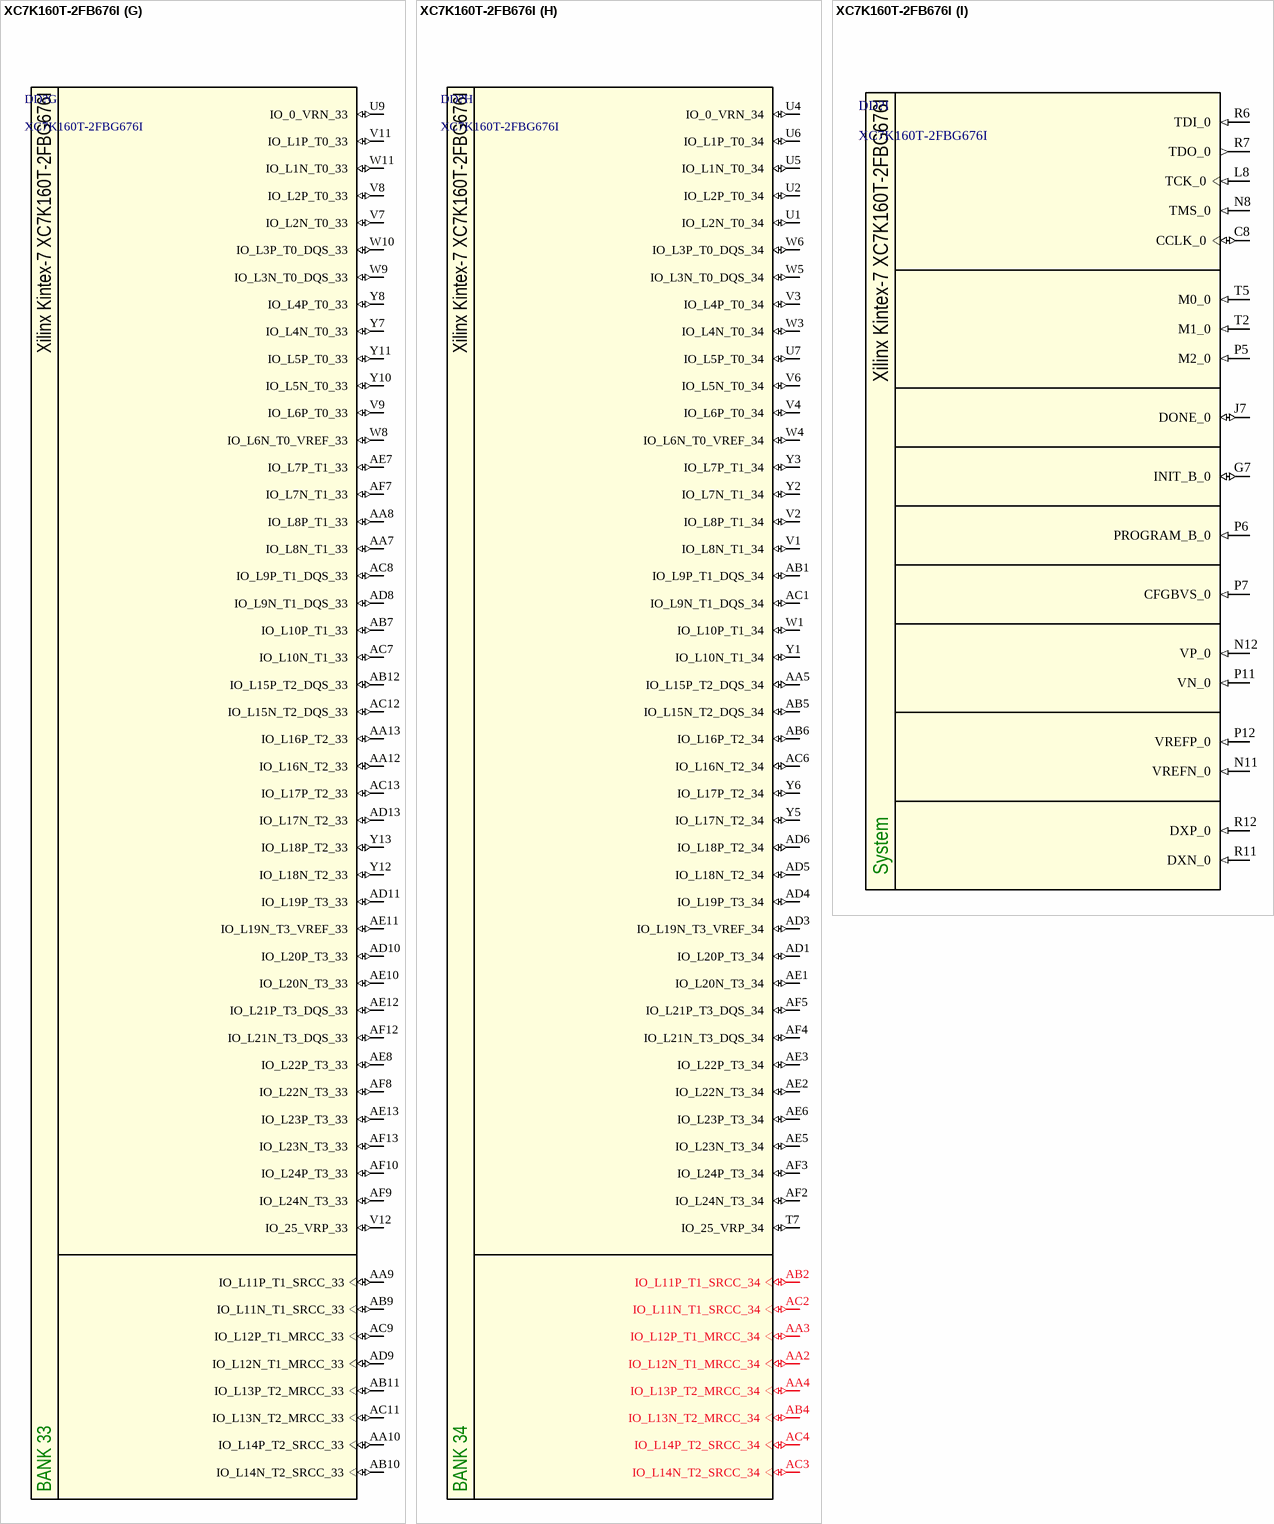
[diagram p7: symbol XC7K160T-2FB676I]

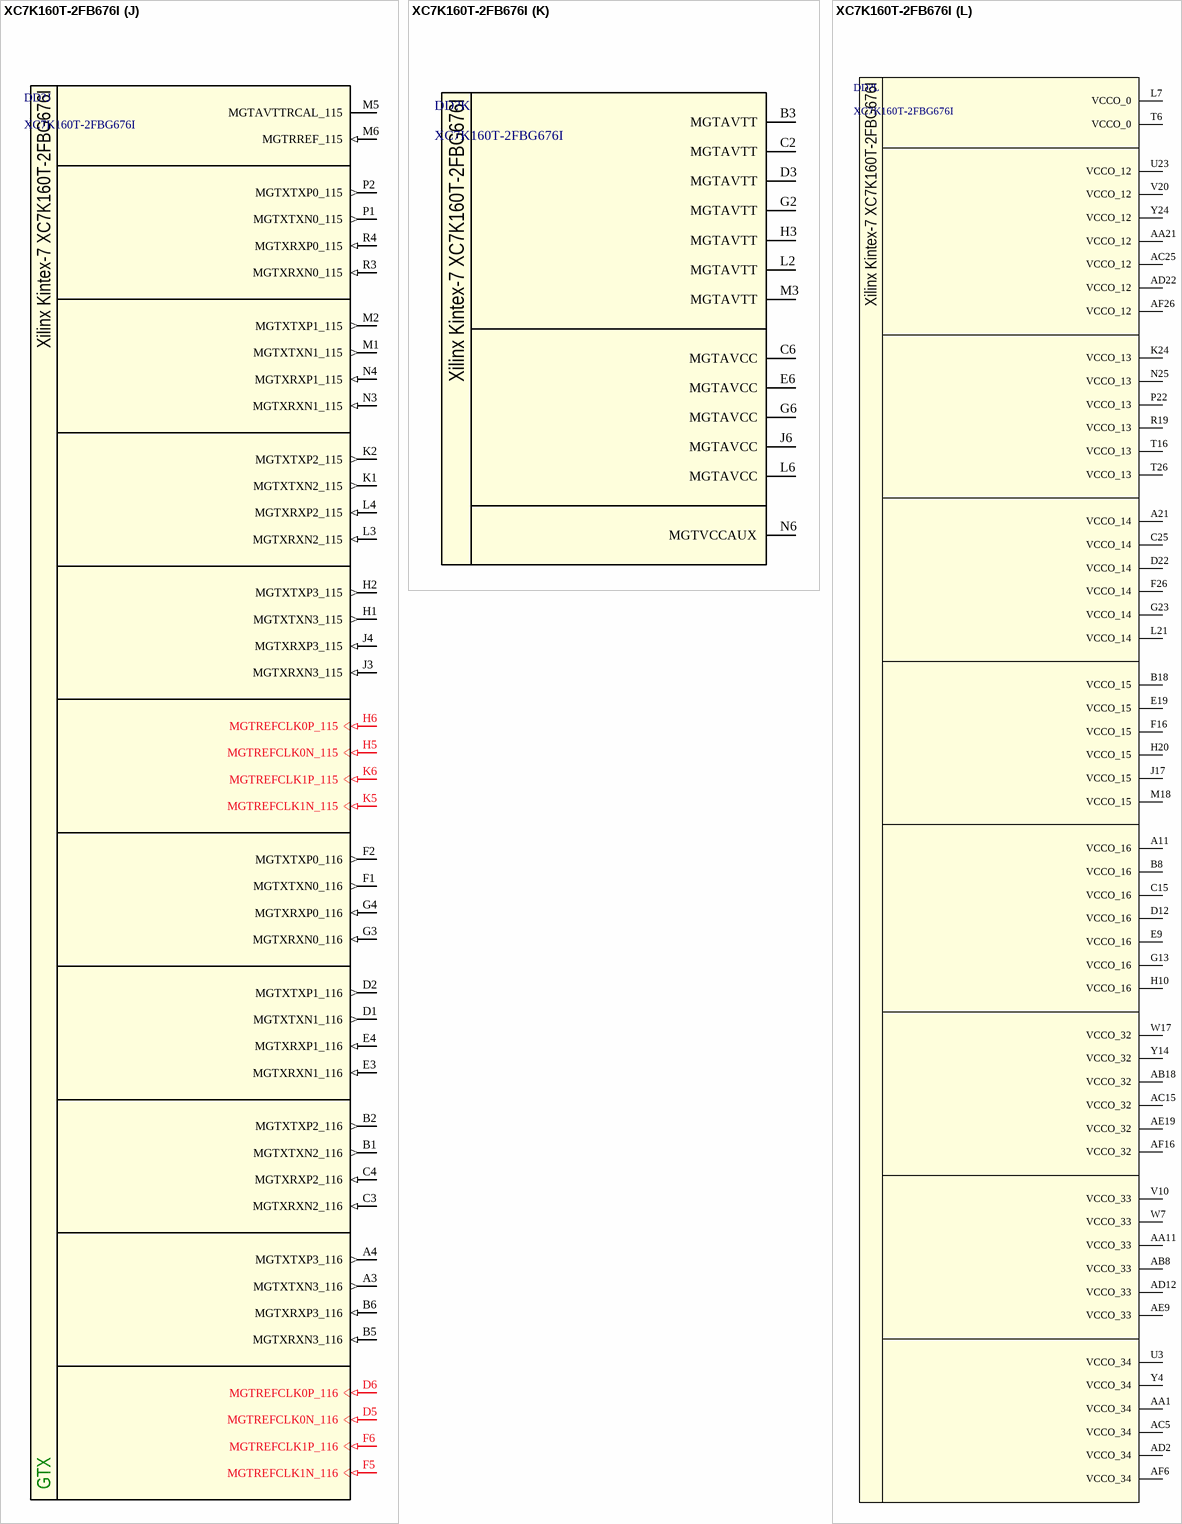
[diagram p8: symbol XC7K160T-2FB676I]

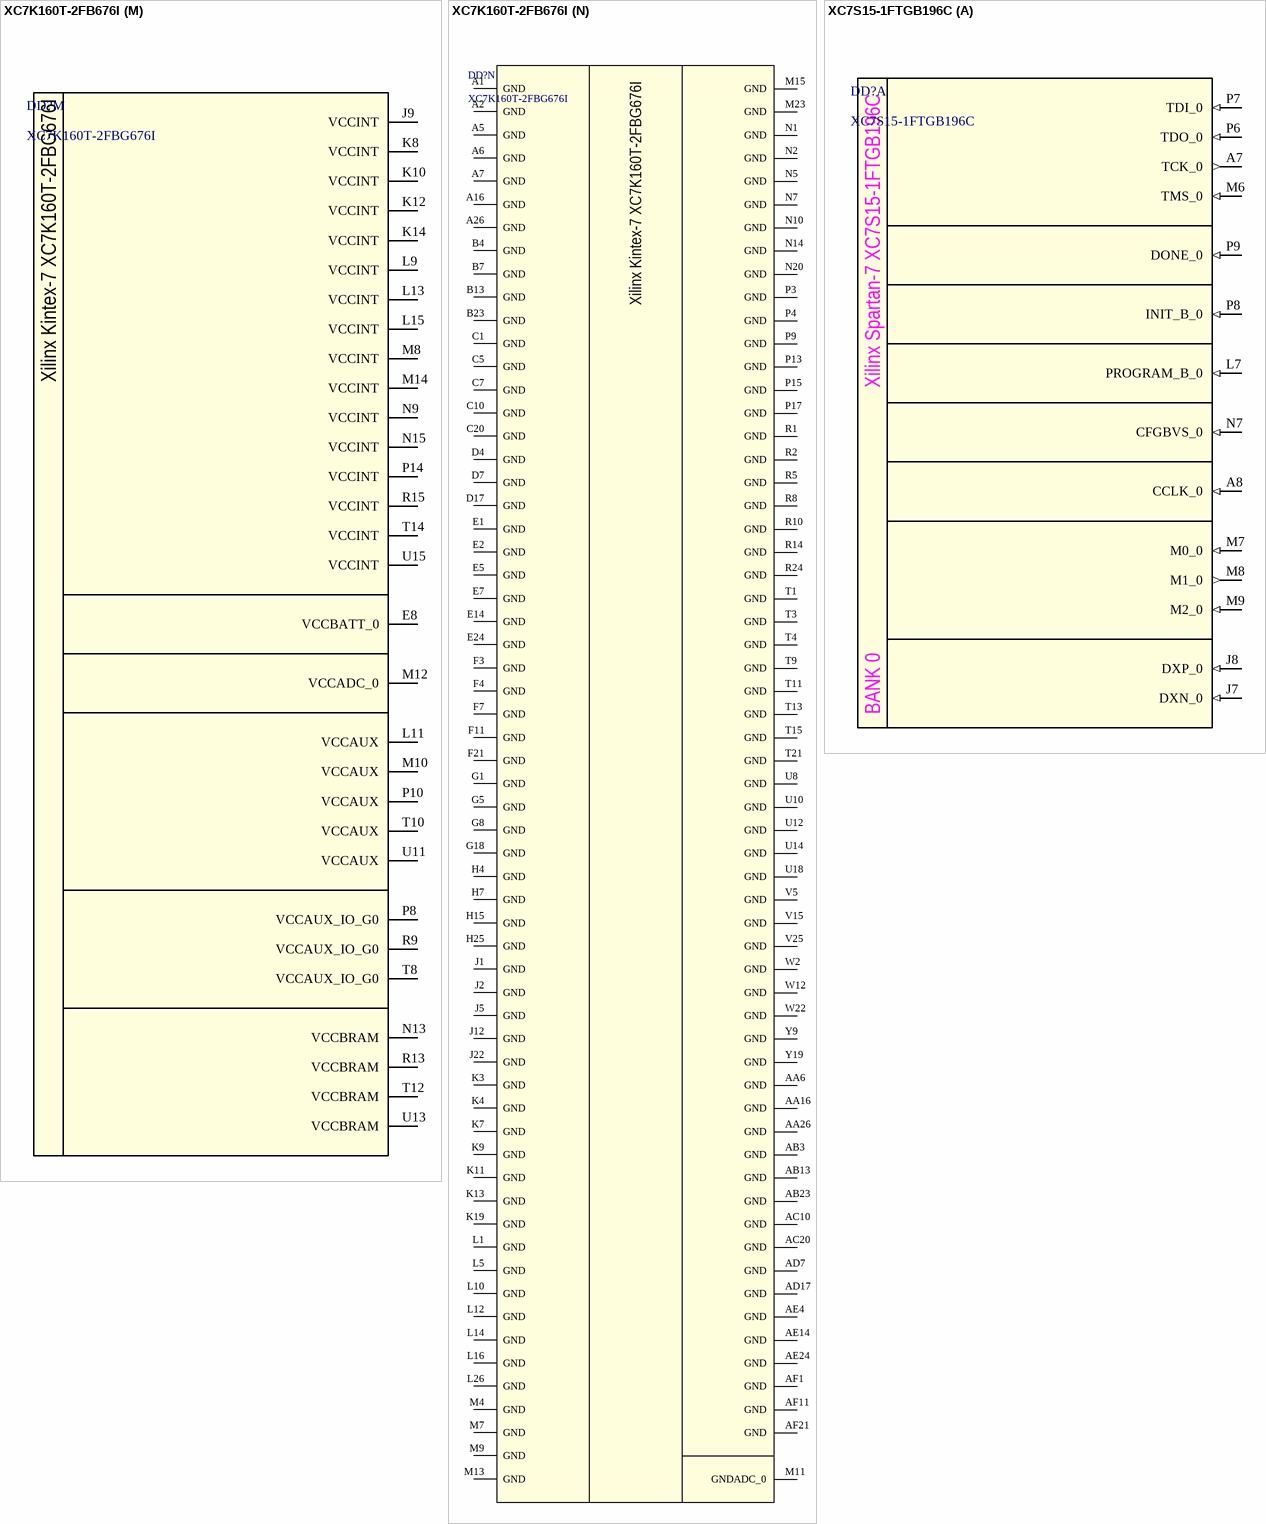
[diagram p9: symbols XC7K160T-2FB676I to XC7S15-1FTGB196C]

## XC7K160T-2FB676I
designator DD?, comment XC7K160T-2FBG676I
Kintex-7 FPGA, 400 User I/Os, 8 GTX, 676-Ball BGA, Speed Grade 2, Industrial Grade, Pb-Free; Manufacturer: Xilinx; GTX: 8; SelectIO HP: 150; SelectIO HR: 250; Speed Grade: -2; DatasheetVersion: v1.12; PackageVersion: Rev 1.8; PackageReference: FBG676; PackageDescription: Flip-Chip Lidless BGA, Body 27 x 27 mm, 1.0 mm Pitch; Generic Part Number: XC7K160T; RoHS: Pb-Free; Mounting Technology: Surface Mount; Code_JEDEC: MS-034; Part Number: XC7K160T-2FBG676I; ComponentLink1Description: Datasheet; ComponentLink1URL: http://www.xilinx.com/support/documentation/data_sheets/ds180_7Series_Overview.pdf; ComponentLink2Description: Package Specification; ComponentLink2URL: http://www.xilinx.com/support/documentation/user_guides/ug475_7Series_Pkg_Pinout.pdf
footprint FB676
part A pins: AA22 IO_L13N_T2_MRCC_12 (io), AA23 IO_L11P_T1_SRCC_12 (io), AA24 IO_L12N_T1_MRCC_12 (io), AA25 IO_L7P_T1_12 (io), AB21 IO_L18P_T2_12 (io), AB22 IO_L17P_T2_12 (io), AB24 IO_L11N_T1_SRCC_12 (io), AB25 IO_L7N_T1_12 (io), AB26 IO_L9P_T1_DQS_12 (io), AC21 IO_L18N_T2_12 (io), AC22 IO_L17N_T2_12 (io), AC23 IO_L14P_T2_SRCC_12 (io), AC24 IO_L14N_T2_SRCC_12 (io), AC26 IO_L9N_T1_DQS_12 (io), AD21 IO_L19P_T3_12 (io), AD23 IO_L16P_T2_12 (io), AD24 IO_L16N_T2_12 (io), AD25 IO_L23P_T3_12 (io), AD26 IO_L21P_T3_DQS_12 (io), AE21 IO_L19N_T3_VREF_12 (io), AE22 IO_L24P_T3_12 (io), AE23 IO_L22P_T3_12 (io), AE25 IO_L23N_T3_12 (io), AE26 IO_L21N_T3_DQS_12 (io), AF22 IO_L24N_T3_12 (io), AF23 IO_L22N_T3_12 (io), AF24 IO_L20P_T3_12 (io), AF25 IO_L20N_T3_12 (io), U21 IO_0_12 (io), U22 IO_L1P_T0_12 (io), U24 IO_L2P_T0_12 (io), U25 IO_L2N_T0_12 (io), U26 IO_L4P_T0_12 (io), V21 IO_L6P_T0_12 (io), V22 IO_L1N_T0_12 (io), V23 IO_L3P_T0_DQS_12 (io), V24 IO_L3N_T0_DQS_12 (io), V26 IO_L4N_T0_12 (io), W20 IO_L15P_T2_DQS_12 (io), W21 IO_L6N_T0_VREF_12 (io), W23 IO_L8P_T1_12 (io), W24 IO_L8N_T1_12 (io), W25 IO_L5P_T0_12 (io), W26 IO_L5N_T0_12 (io), Y20 IO_25_12 (io), Y21 IO_L15N_T2_DQS_12 (io), Y22 IO_L13P_T2_MRCC_12 (io), Y23 IO_L12P_T1_MRCC_12 (io), Y25 IO_L10P_T1_12 (io), Y26 IO_L10N_T1_12 (io)
part B pins: K25 IO_L1P_T0_13 (io), K26 IO_L1N_T0_13 (io), L24 IO_L8N_T1_13 (io), L25 IO_L3N_T0_DQS_13 (io), M19 IO_L22N_T3_13 (io), M20 IO_L7N_T1_13 (io), M21 IO_L10P_T1_13 (io), M22 IO_L10N_T1_13 (io), M24 IO_L8P_T1_13 (io), M25 IO_L3P_T0_DQS_13 (io), M26 IO_L5N_T0_13 (io), N16 IO_0_13 (io), N17 IO_L20N_T3_13 (io), N18 IO_L22P_T3_13 (io), N19 IO_L7P_T1_13 (io), N21 IO_L12P_T1_MRCC_13 (io), N22 IO_L12N_T1_MRCC_13 (io), N23 IO_L11N_T1_SRCC_13 (io), N24 IO_L4N_T0_13 (io), N26 IO_L5P_T0_13 (io), P16 IO_L20P_T3_13 (io), P18 IO_L24N_T3_13 (io), P19 IO_L9P_T1_DQS_13 (io), P20 IO_L9N_T1_DQS_13 (io), P21 IO_L13N_T2_MRCC_13 (io), P23 IO_L11P_T1_SRCC_13 (io), P24 IO_L4P_T0_13 (io), P25 IO_L6N_T0_VREF_13 (io), P26 IO_L2N_T0_13 (io), R16 IO_L21P_T3_DQS_13 (io), R17 IO_L21N_T3_DQS_13 (io), R18 IO_L24P_T3_13 (io), R20 IO_L16N_T2_13 (io), R21 IO_L13P_T2_MRCC_13 (io), R22 IO_L14P_T2_SRCC_13 (io), R23 IO_L14N_T2_SRCC_13 (io), R25 IO_L6P_T0_13 (io), R26 IO_L2P_T0_13 (io), T17 IO_L23N_T3_13 (io), T18 IO_L19P_T3_13 (io), T19 IO_L19N_T3_VREF_13 (io), T20 IO_L16P_T2_13 (io), T22 IO_L17P_T2_13 (io), T23 IO_L17N_T2_13 (io), T24 IO_L15P_T2_DQS_13 (io), T25 IO_L15N_T2_DQS_13 (io), U16 IO_25_13 (io), U17 IO_L23P_T3_13 (io), U19 IO_L18P_T2_13 (io), U20 IO_L18N_T2_13 (io)
part C pins: A20 IO_L8N_T1_D12_14 (io), A22 IO_L2N_T0_D03_14 (io), A23 IO_L4P_T0_D04_14 (io), A24 IO_L4N_T0_D05_14 (io), A25 IO_L1N_T0_D01_DIN_14 (io), B20 IO_L8P_T1_D11_14 (io), B21 IO_L10N_T1_D15_14 (io), B22 IO_L2P_T0_D02_14 (io), B24 IO_L1P_T0_D00_MOSI_14 (io), B25 IO_L3P_T0_DQS_PUDC_B_14 (io), B26 IO_L3N_T0_DQS_EMCCLK_14 (io), C21 IO_L10P_T1_D14_14 (io), C22 IO_L7N_T1_D10_14 (io), C23 IO_L6P_T0_FCS_B_14 (io), C24 IO_L6N_T0_D08_VREF_14 (io), C26 IO_L5N_T0_D07_14 (io), D21 IO_L7P_T1_D09_14 (io), D23 IO_L11P_T1_SRCC_14 (io), D24 IO_L11N_T1_SRCC_14 (io), D25 IO_L15N_T2_DQS_DOUT_CSO_B_14 (io), D26 IO_L5P_T0_D06_14 (io), E21 IO_L9P_T1_DQS_14 (io), E22 IO_L9N_T1_DQS_D13_14 (io), E23 IO_L12N_T1_MRCC_14 (io), E25 IO_L15P_T2_DQS_RDWR_B_14 (io), E26 IO_L17N_T2_A13_D29_14 (io), F22 IO_L12P_T1_MRCC_14 (io), F23 IO_L13N_T2_MRCC_14 (io), F24 IO_L14N_T2_SRCC_14 (io), F25 IO_L17P_T2_A14_D30_14 (io), G21 IO_L19N_T3_A09_D25_VREF_14 (io), G22 IO_L13P_T2_MRCC_14 (io), G24 IO_L14P_T2_SRCC_14 (io), G25 IO_L16P_T2_CSI_B_14 (io), G26 IO_L16N_T2_A15_D31_14 (io), H21 IO_L19P_T3_A10_D26_14 (io), H22 IO_L21N_T3_DQS_A06_D22_14 (io), H23 IO_L20P_T3_A08_D24_14 (io), H24 IO_L20N_T3_A07_D23_14 (io), H26 IO_L18N_T2_A11_D27_14 (io), J21 IO_L21P_T3_DQS_14 (io), J23 IO_L24N_T3_A00_D16_14 (io), J24 IO_L22P_T3_A05_D21_14 (io), J25 IO_L22N_T3_A04_D20_14 (io), J26 IO_L18P_T2_A12_D28_14 (io), K21 IO_0_14 (io), K22 IO_L23N_T3_A02_D18_14 (io), K23 IO_L24P_T3_A01_D17_14 (io), L22 IO_L23P_T3_A03_D19_14 (io), L23 IO_25_14 (io)
part D pins: A17 IO_L3N_T0_DQS_AD1N_15 (io), A18 IO_L2P_T0_AD8P_15 (io), A19 IO_L2N_T0_AD8N_15 (io), B16 IO_L1N_T0_AD0N_15 (io), B17 IO_L3P_T0_DQS_AD1P_15 (io), B19 IO_L4N_T0_AD9N_15 (io), C16 IO_L1P_T0_AD0P_15 (io), C17 IO_L5P_T0_AD2P_15 (io), C18 IO_L5N_T0_AD2N_15 (io), C19 IO_L4P_T0_AD9P_15 (io), D15 IO_L6P_T0_15 (io), D16 IO_L6N_T0_VREF_15 (io), D18 IO_L13N_T2_MRCC_15 (io), D19 IO_L15P_T2_DQS_15 (io), D20 IO_L15N_T2_DQS_ADV_B_15 (io), E15 IO_L10P_T1_AD4P_15 (io), E16 IO_L10N_T1_AD4N_15 (io), E17 IO_L12N_T1_MRCC_AD5N_15 (io), E18 IO_L13P_T2_MRCC_15 (io), E20 IO_L17N_T2_A25_15 (io), F15 IO_L8N_T1_AD3N_15 (io), F17 IO_L12P_T1_MRCC_AD5P_15 (io), F18 IO_L11N_T1_SRCC_AD12N_15 (io), F19 IO_L17P_T2_A26_15 (io), F20 IO_L16N_T2_A27_15 (io), G15 IO_L8P_T1_AD3P_15 (io), G16 IO_L7N_T1_AD10N_15 (io), G17 IO_L11P_T1_SRCC_AD12P_15 (io), G19 IO_L16P_T2_A28_15 (io), G20 IO_L18N_T2_A23_15 (io), H16 IO_L7P_T1_AD10P_15 (io), H17 IO_L14P_T2_SRCC_15 (io), H18 IO_L14N_T2_SRCC_15 (io), H19 IO_L18P_T2_A24_15 (io), J15 IO_L9P_T1_DQS_AD11P_15 (io), J16 IO_L9N_T1_DQS_AD11N_15 (io), J18 IO_L20P_T3_A20_15 (io), J19 IO_L20N_T3_A19_15 (io), J20 IO_L19N_T3_A21_VREF_15 (io), K15 IO_0_15 (io), K16 IO_L22P_T3_A17_15 (io), K17 IO_L22N_T3_A16_15 (io), K18 IO_L24N_T3_RS0_15 (io), K20 IO_L19P_T3_A22_15 (io), L17 IO_L24P_T3_RS1_15 (io), L18 IO_L23N_T3_FWE_B_15 (io), L19 IO_L21P_T3_DQS_15 (io), L20 IO_L21N_T3_DQS_A18_15 (io), M16 IO_25_15 (io), M17 IO_L23P_T3_FOE_B_15 (io)
part E pins: A8 IO_L9N_T1_DQS_16 (io), A9 IO_L9P_T1_DQS_16 (io), A10 IO_L22N_T3_16 (io), A12 IO_L24N_T3_16 (io), A13 IO_L24P_T3_16 (io), A14 IO_L21N_T3_DQS_16 (io), A15 IO_L23N_T3_16 (io), B9 IO_L10N_T1_16 (io), B10 IO_L22P_T3_16 (io), B11 IO_L20N_T3_16 (io), B12 IO_L20P_T3_16 (io), B14 IO_L21P_T3_DQS_16 (io), B15 IO_L23P_T3_16 (io), C9 IO_L10P_T1_16 (io), C11 IO_L13N_T2_MRCC_16 (io), C12 IO_L13P_T2_MRCC_16 (io), C13 IO_L19N_T3_VREF_16 (io), C14 IO_L19P_T3_16 (io), D8 IO_L8N_T1_16 (io), D9 IO_L8P_T1_16 (io), D10 IO_L12N_T1_MRCC_16 (io), D11 IO_L14N_T2_SRCC_16 (io), D13 IO_L17N_T2_16 (io), D14 IO_L17P_T2_16 (io), E10 IO_L12P_T1_MRCC_16 (io), E11 IO_L14P_T2_SRCC_16 (io), E12 IO_L18N_T2_16 (io), E13 IO_L18P_T2_16 (io), F8 IO_L7N_T1_16 (io), F9 IO_L7P_T1_16 (io), F10 IO_L11N_T1_SRCC_16 (io), F12 IO_L16N_T2_16 (io), F13 IO_L15N_T2_DQS_16 (io), F14 IO_L15P_T2_DQS_16 (io), G9 IO_L2N_T0_16 (io), G10 IO_L2P_T0_16 (io), G11 IO_L11P_T1_SRCC_16 (io), G12 IO_L16P_T2_16 (io), G14 IO_L5N_T0_16 (io), H8 IO_L1N_T0_16 (io), H9 IO_L1P_T0_16 (io), H11 IO_L6N_T0_VREF_16 (io), H12 IO_L6P_T0_16 (io), H13 IO_L3N_T0_DQS_16 (io), H14 IO_L5P_T0_16 (io), J8 IO_0_16 (io), J10 IO_L4N_T0_16 (io), J11 IO_L4P_T0_16 (io), J13 IO_L3P_T0_DQS_16 (io), J14 IO_25_16 (io)
part F pins: AA14 IO_L7P_T1_32 (io), AA15 IO_L7N_T1_32 (io), AA17 IO_L11P_T1_SRCC_32 (io), AA18 IO_L11N_T1_SRCC_32 (io), AA19 IO_L16P_T2_32 (io), AA20 IO_L16N_T2_32 (io), AB14 IO_L10P_T1_32 (io), AB15 IO_L10N_T1_32 (io), AB16 IO_L12P_T1_MRCC_32 (io), AB17 IO_L14P_T2_SRCC_32 (io), AB19 IO_L18P_T2_32 (io), AB20 IO_L18N_T2_32 (io), AC14 IO_L8P_T1_32 (io), AC16 IO_L12N_T1_MRCC_32 (io), AC17 IO_L14N_T2_SRCC_32 (io), AC18 IO_L13P_T2_MRCC_32 (io), AC19 IO_L17P_T2_32 (io), AD14 IO_L8N_T1_32 (io), AD15 IO_L4P_T0_32 (io), AD16 IO_L6P_T0_32 (io), AD18 IO_L13N_T2_MRCC_32 (io), AD19 IO_L17N_T2_32 (io), AD20 IO_L15P_T2_DQS_32 (io), AE15 IO_L4N_T0_32 (io), AE16 IO_L6N_T0_VREF_32 (io), AE17 IO_L1P_T0_32 (io), AE18 IO_L3P_T0_DQS_32 (io), AE20 IO_L15N_T2_DQS_32 (io), AF14 IO_L2P_T0_32 (io), AF15 IO_L2N_T0_32 (io), AF17 IO_L1N_T0_32 (io), AF18 IO_L3N_T0_DQS_32 (io), AF19 IO_L5P_T0_32 (io), AF20 IO_L5N_T0_32 (io), V13 IO_0_VRN_32 (io), V14 IO_L24P_T3_32 (io), V16 IO_L20P_T3_32 (io), V17 IO_L20N_T3_32 (io), V18 IO_L23P_T3_32 (io), V19 IO_L23N_T3_32 (io), W13 IO_25_VRP_32 (io), W14 IO_L24N_T3_32 (io), W15 IO_L22P_T3_32 (io), W16 IO_L22N_T3_32 (io), W18 IO_L21P_T3_DQS_32 (io), W19 IO_L21N_T3_DQS_32 (io), Y15 IO_L9P_T1_DQS_32 (io), Y16 IO_L9N_T1_DQS_32 (io), Y17 IO_L19P_T3_32 (io), Y18 IO_L19N_T3_VREF_32 (io)
part G pins: AA7 IO_L8N_T1_33 (io), AA8 IO_L8P_T1_33 (io), AA9 IO_L11P_T1_SRCC_33 (io), AA10 IO_L14P_T2_SRCC_33 (io), AA12 IO_L16N_T2_33 (io), AA13 IO_L16P_T2_33 (io), AB7 IO_L10P_T1_33 (io), AB9 IO_L11N_T1_SRCC_33 (io), AB10 IO_L14N_T2_SRCC_33 (io), AB11 IO_L13P_T2_MRCC_33 (io), AB12 IO_L15P_T2_DQS_33 (io), AC7 IO_L10N_T1_33 (io), AC8 IO_L9P_T1_DQS_33 (io), AC9 IO_L12P_T1_MRCC_33 (io), AC11 IO_L13N_T2_MRCC_33 (io), AC12 IO_L15N_T2_DQS_33 (io), AC13 IO_L17P_T2_33 (io), AD8 IO_L9N_T1_DQS_33 (io), AD9 IO_L12N_T1_MRCC_33 (io), AD10 IO_L20P_T3_33 (io), AD11 IO_L19P_T3_33 (io), AD13 IO_L17N_T2_33 (io), AE7 IO_L7P_T1_33 (io), AE8 IO_L22P_T3_33 (io), AE10 IO_L20N_T3_33 (io), AE11 IO_L19N_T3_VREF_33 (io), AE12 IO_L21P_T3_DQS_33 (io), AE13 IO_L23P_T3_33 (io), AF7 IO_L7N_T1_33 (io), AF8 IO_L22N_T3_33 (io), AF9 IO_L24N_T3_33 (io), AF10 IO_L24P_T3_33 (io), AF12 IO_L21N_T3_DQS_33 (io), AF13 IO_L23N_T3_33 (io), U9 IO_0_VRN_33 (io), V7 IO_L2N_T0_33 (io), V8 IO_L2P_T0_33 (io), V9 IO_L6P_T0_33 (io), V11 IO_L1P_T0_33 (io), V12 IO_25_VRP_33 (io), W8 IO_L6N_T0_VREF_33 (io), W9 IO_L3N_T0_DQS_33 (io), W10 IO_L3P_T0_DQS_33 (io), W11 IO_L1N_T0_33 (io), Y7 IO_L4N_T0_33 (io), Y8 IO_L4P_T0_33 (io), Y10 IO_L5N_T0_33 (io), Y11 IO_L5P_T0_33 (io), Y12 IO_L18N_T2_33 (io), Y13 IO_L18P_T2_33 (io)
part H pins: AA2 IO_L12N_T1_MRCC_34 (io), AA3 IO_L12P_T1_MRCC_34 (io), AA4 IO_L13P_T2_MRCC_34 (io), AA5 IO_L15P_T2_DQS_34 (io), AB1 IO_L9P_T1_DQS_34 (io), AB2 IO_L11P_T1_SRCC_34 (io), AB4 IO_L13N_T2_MRCC_34 (io), AB5 IO_L15N_T2_DQS_34 (io), AB6 IO_L16P_T2_34 (io), AC1 IO_L9N_T1_DQS_34 (io), AC2 IO_L11N_T1_SRCC_34 (io), AC3 IO_L14N_T2_SRCC_34 (io), AC4 IO_L14P_T2_SRCC_34 (io), AC6 IO_L16N_T2_34 (io), AD1 IO_L20P_T3_34 (io), AD3 IO_L19N_T3_VREF_34 (io), AD4 IO_L19P_T3_34 (io), AD5 IO_L18N_T2_34 (io), AD6 IO_L18P_T2_34 (io), AE1 IO_L20N_T3_34 (io), AE2 IO_L22N_T3_34 (io), AE3 IO_L22P_T3_34 (io), AE5 IO_L23N_T3_34 (io), AE6 IO_L23P_T3_34 (io), AF2 IO_L24N_T3_34 (io), AF3 IO_L24P_T3_34 (io), AF4 IO_L21N_T3_DQS_34 (io), AF5 IO_L21P_T3_DQS_34 (io), T7 IO_25_VRP_34 (io), U1 IO_L2N_T0_34 (io), U2 IO_L2P_T0_34 (io), U4 IO_0_VRN_34 (io), U5 IO_L1N_T0_34 (io), U6 IO_L1P_T0_34 (io), U7 IO_L5P_T0_34 (io), V1 IO_L8N_T1_34 (io), V2 IO_L8P_T1_34 (io), V3 IO_L4P_T0_34 (io), V4 IO_L6P_T0_34 (io), V6 IO_L5N_T0_34 (io), W1 IO_L10P_T1_34 (io), W3 IO_L4N_T0_34 (io), W4 IO_L6N_T0_VREF_34 (io), W5 IO_L3N_T0_DQS_34 (io), W6 IO_L3P_T0_DQS_34 (io), Y1 IO_L10N_T1_34 (io), Y2 IO_L7N_T1_34 (io), Y3 IO_L7P_T1_34 (io), Y5 IO_L17N_T2_34 (io), Y6 IO_L17P_T2_34 (io)
part I pins: C8 CCLK_0 (io), G7 INIT_B_0 (io), J7 DONE_0 (io), L8 TCK_0 (in), N8 TMS_0 (in), N11 VREFN_0 (in), N12 VP_0 (in), P5 M2_0 (in), P6 PROGRAM_B_0 (in), P7 CFGBVS_0 (in), P11 VN_0 (in), P12 VREFP_0 (in), R6 TDI_0 (in), R7 TDO_0 (out), R11 DXN_0 (in), R12 DXP_0 (in), T2 M1_0 (in), T5 M0_0 (in)
part J pins: A3 MGTXTXN3_116 (out), A4 MGTXTXP3_116 (out), B1 MGTXTXN2_116 (out), B2 MGTXTXP2_116 (out), B5 MGTXRXN3_116 (in), B6 MGTXRXP3_116 (in), C3 MGTXRXN2_116 (in), C4 MGTXRXP2_116 (in), D1 MGTXTXN1_116 (out), D2 MGTXTXP1_116 (out), D5 MGTREFCLK0N_116 (in), D6 MGTREFCLK0P_116 (in), E3 MGTXRXN1_116 (in), E4 MGTXRXP1_116 (in), F1 MGTXTXN0_116 (out), F2 MGTXTXP0_116 (out), F5 MGTREFCLK1N_116 (in), F6 MGTREFCLK1P_116 (in), G3 MGTXRXN0_116 (in), G4 MGTXRXP0_116 (in), H1 MGTXTXN3_115 (out), H2 MGTXTXP3_115 (out), H5 MGTREFCLK0N_115 (in), H6 MGTREFCLK0P_115 (in), J3 MGTXRXN3_115 (in), J4 MGTXRXP3_115 (in), K1 MGTXTXN2_115 (out), K2 MGTXTXP2_115 (out), K5 MGTREFCLK1N_115 (in), K6 MGTREFCLK1P_115 (in), L3 MGTXRXN2_115 (in), L4 MGTXRXP2_115 (in), M1 MGTXTXN1_115 (out), M2 MGTXTXP1_115 (out), M5 MGTAVTTRCAL_115, M6 MGTRREF_115 (in), N3 MGTXRXN1_115 (in), N4 MGTXRXP1_115 (in), P1 MGTXTXN0_115 (out), P2 MGTXTXP0_115 (out), R3 MGTXRXN0_115 (in), R4 MGTXRXP0_115 (in)
part K pins: B3 MGTAVTT (power), C2 MGTAVTT (power), C6 MGTAVCC (power), D3 MGTAVTT (power), E6 MGTAVCC (power), G2 MGTAVTT (power), G6 MGTAVCC (power), H3 MGTAVTT (power), J6 MGTAVCC (power), L2 MGTAVTT (power), L6 MGTAVCC (power), M3 MGTAVTT (power), N6 MGTVCCAUX (power)
part L pins: A11 VCCO_16 (power), A21 VCCO_14 (power), AA1 VCCO_34 (power), AA11 VCCO_33 (power), AA21 VCCO_12 (power), AB8 VCCO_33 (power), AB18 VCCO_32 (power), AC5 VCCO_34 (power), AC15 VCCO_32 (power), AC25 VCCO_12 (power), AD2 VCCO_34 (power), AD12 VCCO_33 (power), AD22 VCCO_12 (power), AE9 VCCO_33 (power), AE19 VCCO_32 (power), AF6 VCCO_34 (power), AF16 VCCO_32 (power), AF26 VCCO_12 (power), B8 VCCO_16 (power), B18 VCCO_15 (power), C15 VCCO_16 (power), C25 VCCO_14 (power), D12 VCCO_16 (power), D22 VCCO_14 (power), E9 VCCO_16 (power), E19 VCCO_15 (power), F16 VCCO_15 (power), F26 VCCO_14 (power), G13 VCCO_16 (power), G23 VCCO_14 (power), H10 VCCO_16 (power), H20 VCCO_15 (power), J17 VCCO_15 (power), K24 VCCO_13 (power), L7 VCCO_0 (power), L21 VCCO_14 (power), M18 VCCO_15 (power), N25 VCCO_13 (power), P22 VCCO_13 (power), R19 VCCO_13 (power), T6 VCCO_0 (power), T16 VCCO_13 (power), T26 VCCO_13 (power), U3 VCCO_34 (power), U23 VCCO_12 (power), V10 VCCO_33 (power), V20 VCCO_12 (power), W7 VCCO_33 (power), W17 VCCO_32 (power), Y4 VCCO_34 (power), Y14 VCCO_32 (power), Y24 VCCO_12 (power)
part M pins: E8 VCCBATT_0 (power), J9 VCCINT (power), K8 VCCINT (power), K10 VCCINT (power), K12 VCCINT (power), K14 VCCINT (power), L9 VCCINT (power), L11 VCCAUX (power), L13 VCCINT (power), L15 VCCINT (power), M8 VCCINT (power), M10 VCCAUX (power), M12 VCCADC_0 (power), M14 VCCINT (power), N9 VCCINT (power), N13 VCCBRAM (power), N15 VCCINT (power), P8 VCCAUX_IO_G0 (power), P10 VCCAUX (power), P14 VCCINT (power), R9 VCCAUX_IO_G0 (power), R13 VCCBRAM (power), R15 VCCINT (power), T8 VCCAUX_IO_G0 (power), T10 VCCAUX (power), T12 VCCBRAM (power), T14 VCCINT (power), U11 VCCAUX (power), U13 VCCBRAM (power), U15 VCCINT (power)
part N pins: A1 GND (power), A2 GND (power), A5 GND (power), A6 GND (power), A7 GND (power), A16 GND (power), A26 GND (power), AA6 GND (power), AA16 GND (power), AA26 GND (power), AB3 GND (power), AB13 GND (power), AB23 GND (power), AC10 GND (power), AC20 GND (power), AD7 GND (power), AD17 GND (power), AE4 GND (power), AE14 GND (power), AE24 GND (power), AF1 GND (power), AF11 GND (power), AF21 GND (power), B4 GND (power), B7 GND (power), B13 GND (power), B23 GND (power), C1 GND (power), C5 GND (power), C7 GND (power), C10 GND (power), C20 GND (power), D4 GND (power), D7 GND (power), D17 GND (power), E1 GND (power), E2 GND (power), E5 GND (power), E7 GND (power), E14 GND (power), E24 GND (power), F3 GND (power), F4 GND (power), F7 GND (power), F11 GND (power), F21 GND (power), G1 GND (power), G5 GND (power), G8 GND (power), G18 GND (power), H4 GND (power), H7 GND (power), H15 GND (power), H25 GND (power), J1 GND (power), J2 GND (power), J5 GND (power), J12 GND (power), J22 GND (power), K3 GND (power), K4 GND (power), K7 GND (power), K9 GND (power), K11 GND (power), K13 GND (power), K19 GND (power), L1 GND (power), L5 GND (power), L10 GND (power), L12 GND (power), L14 GND (power), L16 GND (power), L26 GND (power), M4 GND (power), M7 GND (power), M9 GND (power), M11 GNDADC_0 (power), M13 GND (power), M15 GND (power), M23 GND (power), N1 GND (power), N2 GND (power), N5 GND (power), N7 GND (power), N10 GND (power), N14 GND (power), N20 GND (power), P3 GND (power), P4 GND (power), P9 GND (power), P13 GND (power), P15 GND (power), P17 GND (power), R1 GND (power), R2 GND (power), R5 GND (power), R8 GND (power), R10 GND (power), R14 GND (power), R24 GND (power), T1 GND (power), T3 GND (power), T4 GND (power), T9 GND (power), T11 GND (power), T13 GND (power), T15 GND (power), T21 GND (power), U8 GND (power), U10 GND (power), U12 GND (power), U14 GND (power), U18 GND (power), V5 GND (power), V15 GND (power), V25 GND (power), W2 GND (power), W12 GND (power), W22 GND (power), Y9 GND (power), Y19 GND (power)
part A text: Xilinx Kintex-7 XC7K160T-2FBG676I; BANK 12
part B text: Xilinx Kintex-7 XC7K160T-2FBG676I; BANK 13
part C text: Xilinx Kintex-7 XC7K160T-2FBG676I; BANK 14
part D text: Xilinx Kintex-7 XC7K160T-2FBG676I; BANK 15
part E text: Xilinx Kintex-7 XC7K160T-2FBG676I; BANK 16
part F text: Xilinx Kintex-7 XC7K160T-2FBG676I; BANK 32
part G text: Xilinx Kintex-7 XC7K160T-2FBG676I; BANK 33
part H text: Xilinx Kintex-7 XC7K160T-2FBG676I; BANK 34
part I text: Xilinx Kintex-7 XC7K160T-2FBG676I; System
part J text: Xilinx Kintex-7 XC7K160T-2FBG676I; GTX
part K text: Xilinx Kintex-7 XC7K160T-2FBG676I
part L text: Xilinx Kintex-7 XC7K160T-2FBG676I
part M text: Xilinx Kintex-7 XC7K160T-2FBG676I
part N text: Xilinx Kintex-7 XC7K160T-2FBG676I

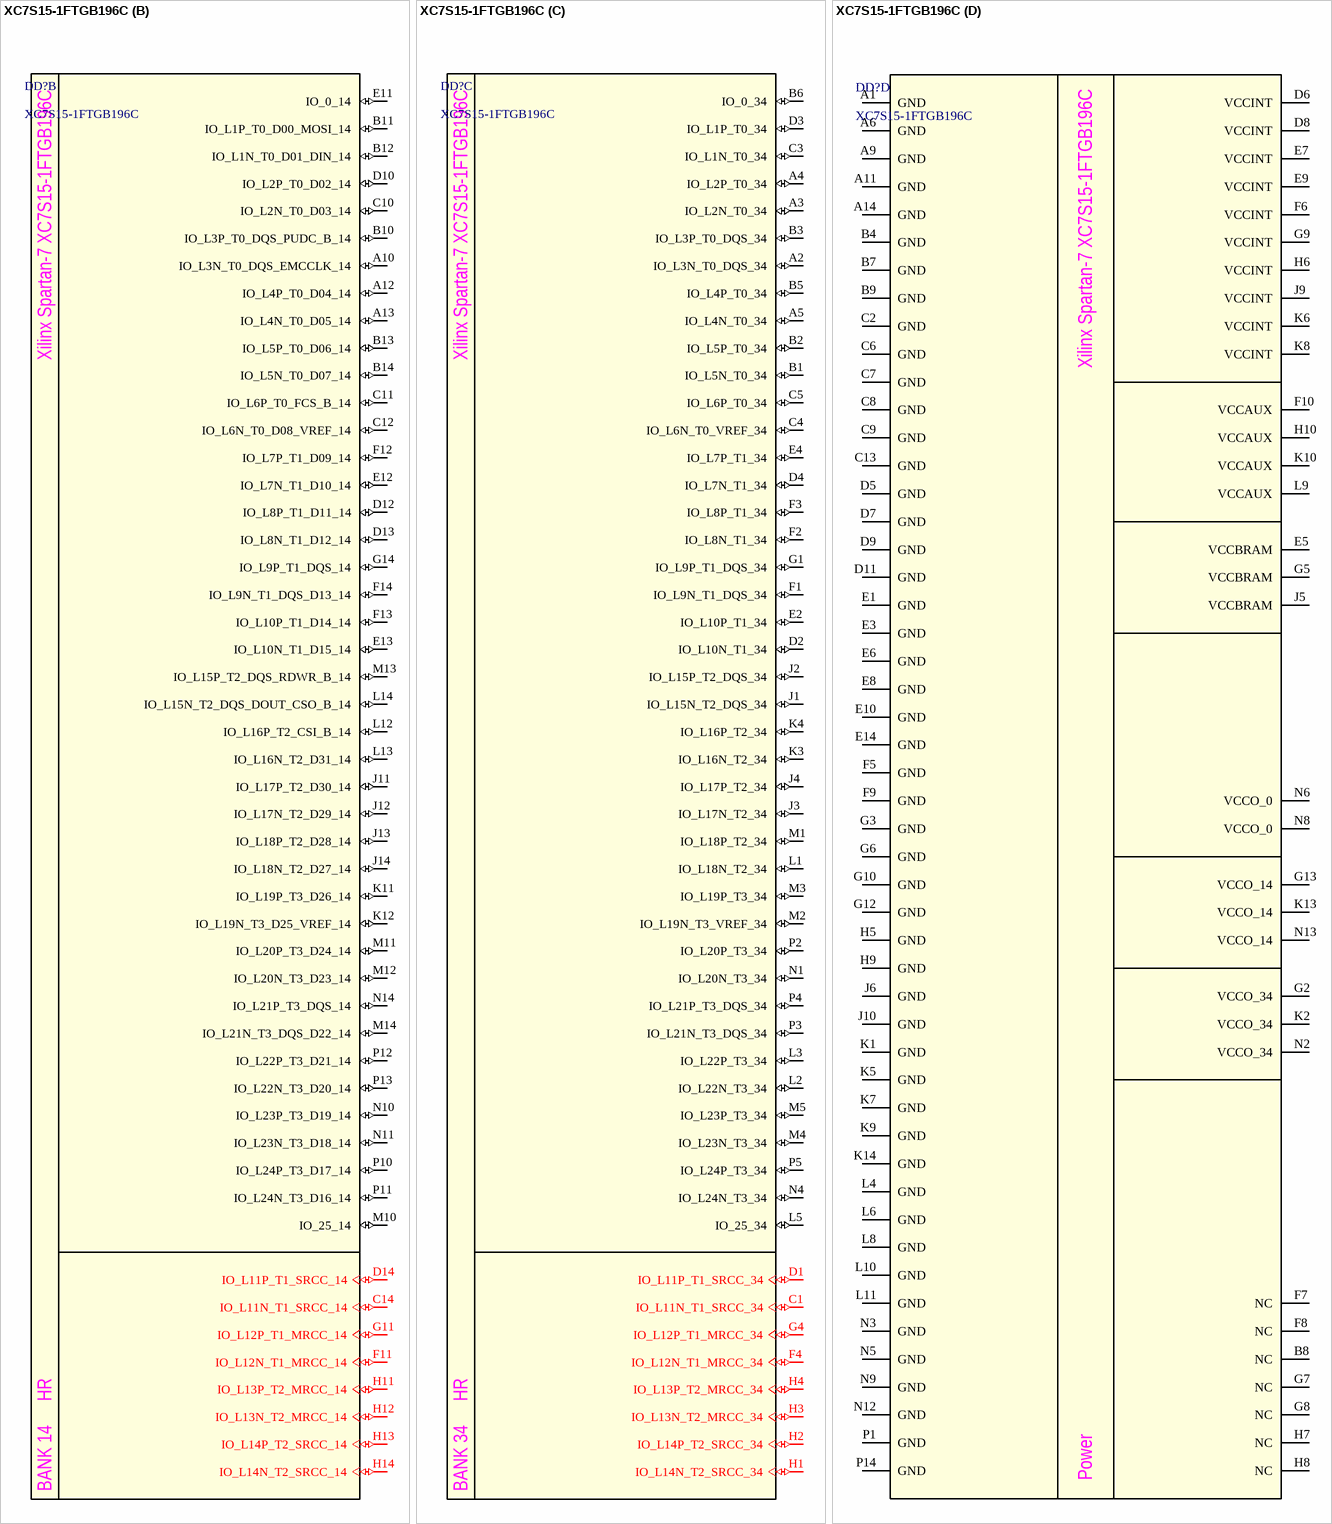
[diagram p10: symbol XC7S15-1FTGB196C]

## XC7S15-1FTGB196C
designator DD?
FPGA Spartan-7; Manufacturer: Xilinx; Speed Grade: -1; Part Number: XC7S15-1FTGB196C; ComponentLink2Description: Package Specification; ComponentLink2URL: http://www.xilinx.com/support/documentation/user_guides/ug475_7Series_Pkg_Pinout.pdf
footprint FTGB196 (BGA, 196-Leads, Body 15,00x15,00mmx1,55mm, Pitch 1,00mm)
part A pins: A7 TCK_0 (out), A8 CCLK_0 (in), J7 DXN_0 (in), J8 DXP_0 (in), L7 PROGRAM_B_0 (in), M6 TMS_0 (in), M7 M0_0 (in), M8 M1_0 (out), M9 M2_0 (in), N7 CFGBVS_0 (in), P6 TDO_0 (in), P7 TDI_0 (in), P8 INIT_B_0 (in), P9 DONE_0 (in)
part B pins: A10 IO_L3N_T0_DQS_EMCCLK_14 (io), A12 IO_L4P_T0_D04_14 (io), A13 IO_L4N_T0_D05_14 (io), B10 IO_L3P_T0_DQS_PUDC_B_14 (io), B11 IO_L1P_T0_D00_MOSI_14 (io), B12 IO_L1N_T0_D01_DIN_14 (io), B13 IO_L5P_T0_D06_14 (io), B14 IO_L5N_T0_D07_14 (io), C10 IO_L2N_T0_D03_14 (io), C11 IO_L6P_T0_FCS_B_14 (io), C12 IO_L6N_T0_D08_VREF_14 (io), C14 IO_L11N_T1_SRCC_14 (io), D10 IO_L2P_T0_D02_14 (io), D12 IO_L8P_T1_D11_14 (io), D13 IO_L8N_T1_D12_14 (io), D14 IO_L11P_T1_SRCC_14 (io), E11 IO_0_14 (io), E12 IO_L7N_T1_D10_14 (io), E13 IO_L10N_T1_D15_14 (io), F11 IO_L12N_T1_MRCC_14 (io), F12 IO_L7P_T1_D09_14 (io), F13 IO_L10P_T1_D14_14 (io), F14 IO_L9N_T1_DQS_D13_14 (io), G11 IO_L12P_T1_MRCC_14 (io), G14 IO_L9P_T1_DQS_14 (io), H11 IO_L13P_T2_MRCC_14 (io), H12 IO_L13N_T2_MRCC_14 (io), H13 IO_L14P_T2_SRCC_14 (io), H14 IO_L14N_T2_SRCC_14 (io), J11 IO_L17P_T2_D30_14 (io), J12 IO_L17N_T2_D29_14 (io), J13 IO_L18P_T2_D28_14 (io), J14 IO_L18N_T2_D27_14 (io), K11 IO_L19P_T3_D26_14 (io), K12 IO_L19N_T3_D25_VREF_14 (io), L12 IO_L16P_T2_CSI_B_14 (io), L13 IO_L16N_T2_D31_14 (io), L14 IO_L15N_T2_DQS_DOUT_CSO_B_14 (io), M10 IO_25_14 (io), M11 IO_L20P_T3_D24_14 (io), M12 IO_L20N_T3_D23_14 (io), M13 IO_L15P_T2_DQS_RDWR_B_14 (io), M14 IO_L21N_T3_DQS_D22_14 (io), N10 IO_L23P_T3_D19_14 (io), N11 IO_L23N_T3_D18_14 (io), N14 IO_L21P_T3_DQS_14 (io), P10 IO_L24P_T3_D17_14 (io), P11 IO_L24N_T3_D16_14 (io), P12 IO_L22P_T3_D21_14 (io), P13 IO_L22N_T3_D20_14 (io)
part C pins: A2 IO_L3N_T0_DQS_34 (io), A3 IO_L2N_T0_34 (io), A4 IO_L2P_T0_34 (io), A5 IO_L4N_T0_34 (io), B1 IO_L5N_T0_34 (io), B2 IO_L5P_T0_34 (io), B3 IO_L3P_T0_DQS_34 (io), B5 IO_L4P_T0_34 (io), B6 IO_0_34 (io), C1 IO_L11N_T1_SRCC_34 (io), C3 IO_L1N_T0_34 (io), C4 IO_L6N_T0_VREF_34 (io), C5 IO_L6P_T0_34 (io), D1 IO_L11P_T1_SRCC_34 (io), D2 IO_L10N_T1_34 (io), D3 IO_L1P_T0_34 (io), D4 IO_L7N_T1_34 (io), E2 IO_L10P_T1_34 (io), E4 IO_L7P_T1_34 (io), F1 IO_L9N_T1_DQS_34 (io), F2 IO_L8N_T1_34 (io), F3 IO_L8P_T1_34 (io), F4 IO_L12N_T1_MRCC_34 (io), G1 IO_L9P_T1_DQS_34 (io), G4 IO_L12P_T1_MRCC_34 (io), H1 IO_L14N_T2_SRCC_34 (io), H2 IO_L14P_T2_SRCC_34 (io), H3 IO_L13N_T2_MRCC_34 (io), H4 IO_L13P_T2_MRCC_34 (io), J1 IO_L15N_T2_DQS_34 (io), J2 IO_L15P_T2_DQS_34 (io), J3 IO_L17N_T2_34 (io), J4 IO_L17P_T2_34 (io), K3 IO_L16N_T2_34 (io), K4 IO_L16P_T2_34 (io), L1 IO_L18N_T2_34 (io), L2 IO_L22N_T3_34 (io), L3 IO_L22P_T3_34 (io), L5 IO_25_34 (io), M1 IO_L18P_T2_34 (io), M2 IO_L19N_T3_VREF_34 (io), M3 IO_L19P_T3_34 (io), M4 IO_L23N_T3_34 (io), M5 IO_L23P_T3_34 (io), N1 IO_L20N_T3_34 (io), N4 IO_L24N_T3_34 (io), P2 IO_L20P_T3_34 (io), P3 IO_L21N_T3_DQS_34 (io), P4 IO_L21P_T3_DQS_34 (io), P5 IO_L24P_T3_34 (io)
part D pins: A1 GND (power), A6 GND (power), A9 GND (power), A11 GND (power), A14 GND (power), B4 GND (power), B7 GND (power), B8 NC (power), B9 GND (power), C2 GND (power), C6 GND (power), C7 GND (power), C8 GND (power), C9 GND (power), C13 GND (power), D5 GND (power), D6 VCCINT (power), D7 GND (power), D8 VCCINT (power), D9 GND (power), D11 GND (power), E1 GND (power), E3 GND (power), E5 VCCBRAM (power), E6 GND (power), E7 VCCINT (power), E8 GND (power), E9 VCCINT (power), E10 GND (power), E14 GND (power), F5 GND (power), F6 VCCINT (power), F7 NC (power), F8 NC (power), F9 GND (power), F10 VCCAUX (power), G2 VCCO_34 (power), G3 GND (power), G5 VCCBRAM (power), G6 GND (power), G7 NC (power), G8 NC (power), G9 VCCINT (power), G10 GND (power), G12 GND (power), G13 VCCO_14 (power), H5 GND (power), H6 VCCINT (power), H7 NC (power), H8 NC (power), H9 GND (power), H10 VCCAUX (power), J5 VCCBRAM (power), J6 GND (power), J9 VCCINT (power), J10 GND (power), K1 GND (power), K2 VCCO_34 (power), K5 GND (power), K6 VCCINT (power), K7 GND (power), K8 VCCINT (power), K9 GND (power), K10 VCCAUX (power), K13 VCCO_14 (power), K14 GND (power), L4 GND (power), L6 GND (power), L8 GND (power), L9 VCCAUX (power), L10 GND (power), L11 GND (power), N2 VCCO_34 (power), N3 GND (power), N5 GND (power), N6 VCCO_0 (power), N8 VCCO_0 (power), N9 GND (power), N12 GND (power), N13 VCCO_14 (power), P1 GND (power), P14 GND (power)
part A text: Xilinx Spartan-7 XC7S15-1FTGB196C; BANK 0
part B text: Xilinx Spartan-7 XC7S15-1FTGB196C; HR; BANK 14
part C text: Xilinx Spartan-7 XC7S15-1FTGB196C; HR; BANK 34
part D text: Xilinx Spartan-7 XC7S15-1FTGB196C; Power

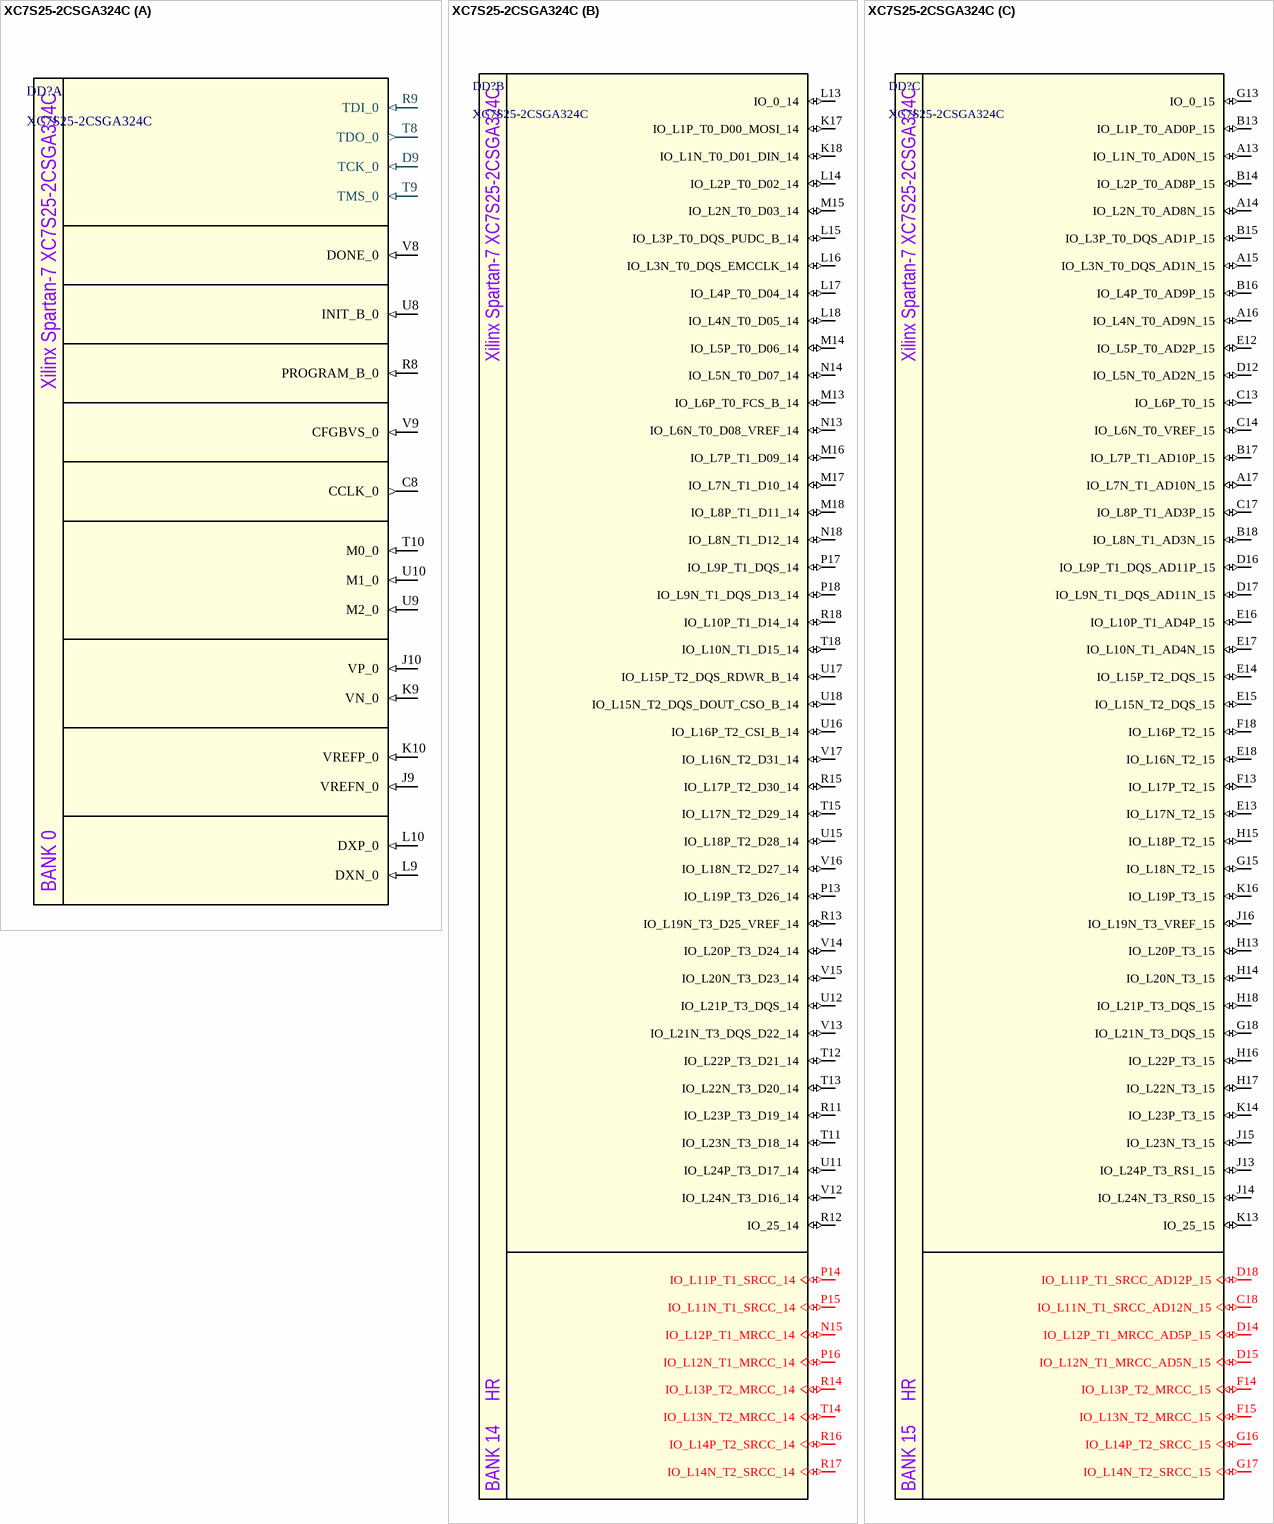
[diagram p11: symbol XC7S25-2CSGA324C]

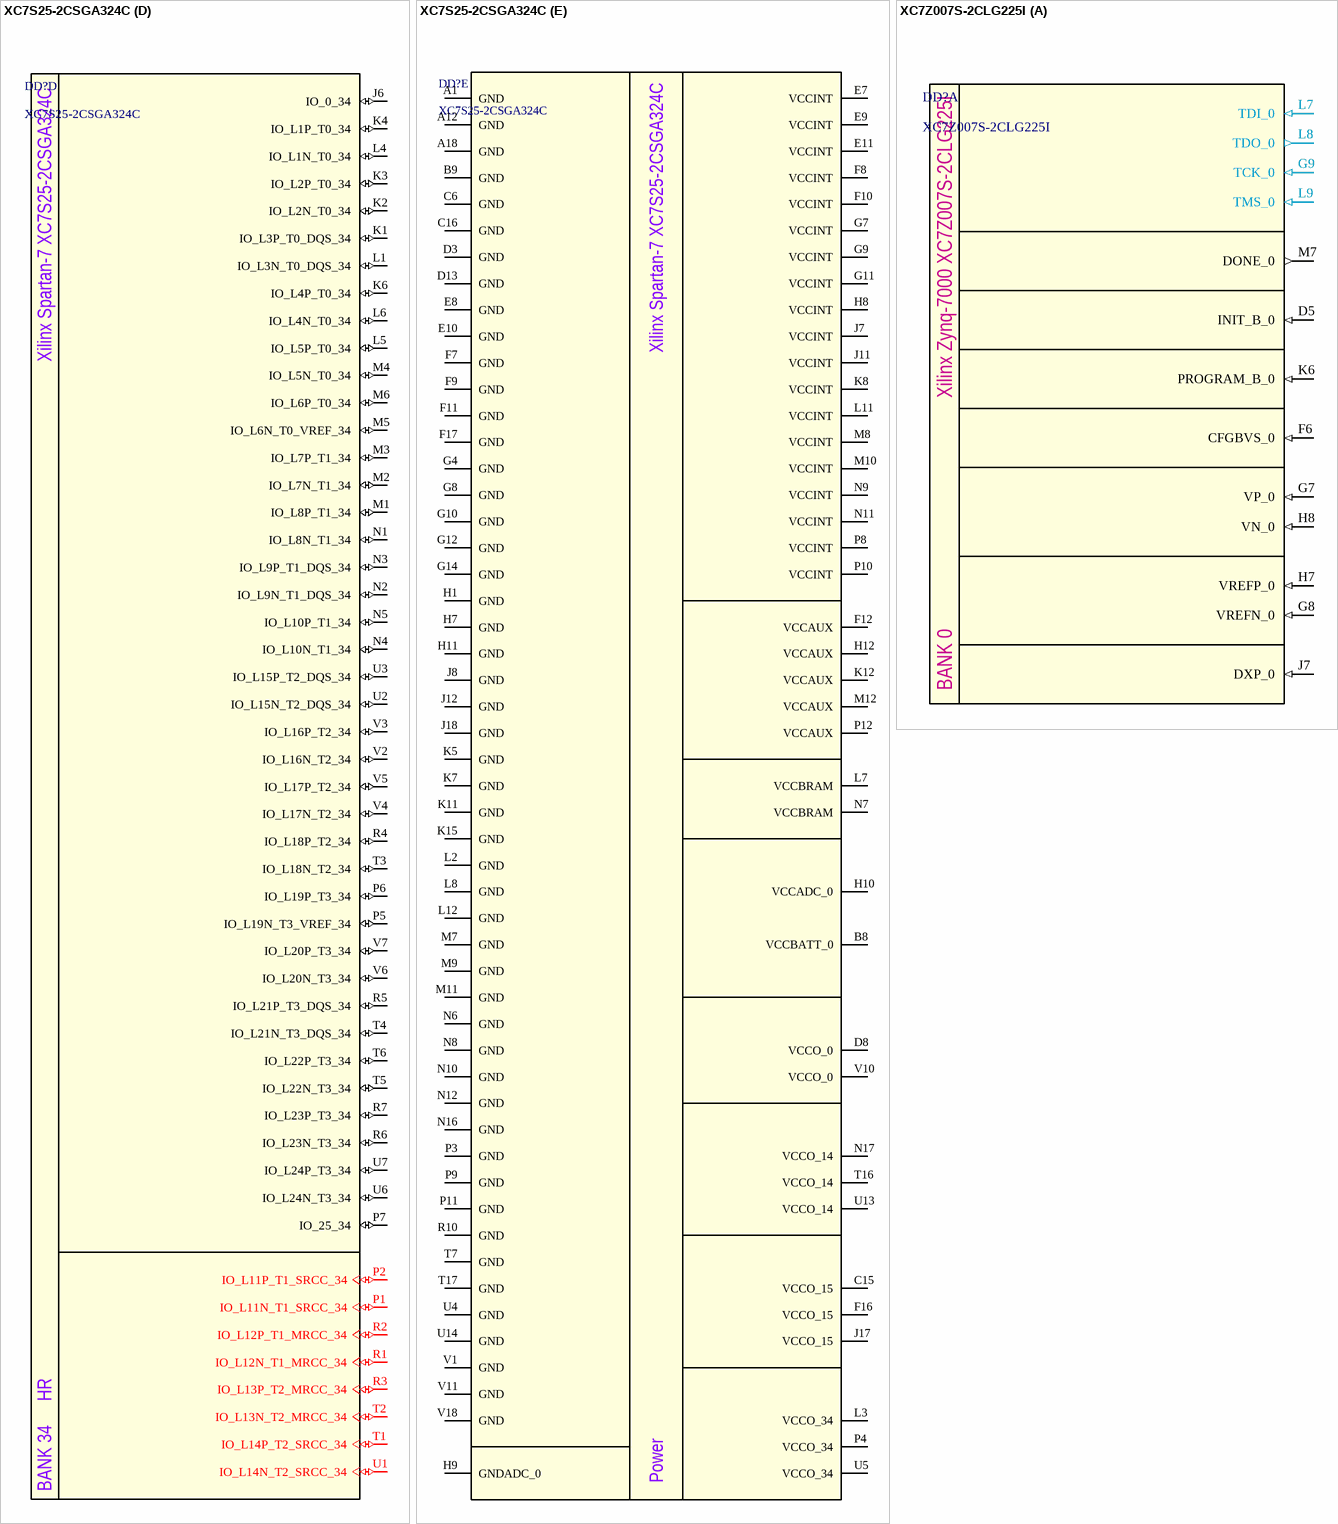
[diagram p12: symbols XC7S25-2CSGA324C to XC7Z007S-2CLG225I]

## XC7S25-2CSGA324C
designator DD?
FPGA Spartan-7; Manufacturer: Xilinx; Speed Grade: -2; Part Number: XC7S25-2CSGA324C; ComponentLink2Description: Package Specification; ComponentLink2URL: http://www.xilinx.com/support/documentation/user_guides/ug475_7Series_Pkg_Pinout.pdf
footprint CSGA324 (BGA, 324-Leads, Body 15,00x15,00mmx1,50mm, Pitch 0,80mm)
part A pins: C8 CCLK_0 (out), D9 TCK_0 (in), J9 VREFN_0 (in), J10 VP_0 (in), K9 VN_0 (in), K10 VREFP_0 (in), L9 DXN_0 (in), L10 DXP_0 (in), R8 PROGRAM_B_0 (in), R9 TDI_0 (in), T8 TDO_0 (out), T9 TMS_0 (in), T10 M0_0 (in), U8 INIT_B_0 (in), U9 M2_0 (in), U10 M1_0 (in), V8 DONE_0 (in), V9 CFGBVS_0 (in)
part B pins: K17 IO_L1P_T0_D00_MOSI_14 (io), K18 IO_L1N_T0_D01_DIN_14 (io), L13 IO_0_14 (io), L14 IO_L2P_T0_D02_14 (io), L15 IO_L3P_T0_DQS_PUDC_B_14 (io), L16 IO_L3N_T0_DQS_EMCCLK_14 (io), L17 IO_L4P_T0_D04_14 (io), L18 IO_L4N_T0_D05_14 (io), M13 IO_L6P_T0_FCS_B_14 (io), M14 IO_L5P_T0_D06_14 (io), M15 IO_L2N_T0_D03_14 (io), M16 IO_L7P_T1_D09_14 (io), M17 IO_L7N_T1_D10_14 (io), M18 IO_L8P_T1_D11_14 (io), N13 IO_L6N_T0_D08_VREF_14 (io), N14 IO_L5N_T0_D07_14 (io), N15 IO_L12P_T1_MRCC_14 (io), N18 IO_L8N_T1_D12_14 (io), P13 IO_L19P_T3_D26_14 (io), P14 IO_L11P_T1_SRCC_14 (io), P15 IO_L11N_T1_SRCC_14 (io), P16 IO_L12N_T1_MRCC_14 (io), P17 IO_L9P_T1_DQS_14 (io), P18 IO_L9N_T1_DQS_D13_14 (io), R11 IO_L23P_T3_D19_14 (io), R12 IO_25_14 (io), R13 IO_L19N_T3_D25_VREF_14 (io), R14 IO_L13P_T2_MRCC_14 (io), R15 IO_L17P_T2_D30_14 (io), R16 IO_L14P_T2_SRCC_14 (io), R17 IO_L14N_T2_SRCC_14 (io), R18 IO_L10P_T1_D14_14 (io), T11 IO_L23N_T3_D18_14 (io), T12 IO_L22P_T3_D21_14 (io), T13 IO_L22N_T3_D20_14 (io), T14 IO_L13N_T2_MRCC_14 (io), T15 IO_L17N_T2_D29_14 (io), T18 IO_L10N_T1_D15_14 (io), U11 IO_L24P_T3_D17_14 (io), U12 IO_L21P_T3_DQS_14 (io), U15 IO_L18P_T2_D28_14 (io), U16 IO_L16P_T2_CSI_B_14 (io), U17 IO_L15P_T2_DQS_RDWR_B_14 (io), U18 IO_L15N_T2_DQS_DOUT_CSO_B_14 (io), V12 IO_L24N_T3_D16_14 (io), V13 IO_L21N_T3_DQS_D22_14 (io), V14 IO_L20P_T3_D24_14 (io), V15 IO_L20N_T3_D23_14 (io), V16 IO_L18N_T2_D27_14 (io), V17 IO_L16N_T2_D31_14 (io)
part C pins: A13 IO_L1N_T0_AD0N_15 (io), A14 IO_L2N_T0_AD8N_15 (io), A15 IO_L3N_T0_DQS_AD1N_15 (io), A16 IO_L4N_T0_AD9N_15 (io), A17 IO_L7N_T1_AD10N_15 (io), B13 IO_L1P_T0_AD0P_15 (io), B14 IO_L2P_T0_AD8P_15 (io), B15 IO_L3P_T0_DQS_AD1P_15 (io), B16 IO_L4P_T0_AD9P_15 (io), B17 IO_L7P_T1_AD10P_15 (io), B18 IO_L8N_T1_AD3N_15 (io), C13 IO_L6P_T0_15 (io), C14 IO_L6N_T0_VREF_15 (io), C17 IO_L8P_T1_AD3P_15 (io), C18 IO_L11N_T1_SRCC_AD12N_15 (io), D12 IO_L5N_T0_AD2N_15 (io), D14 IO_L12P_T1_MRCC_AD5P_15 (io), D15 IO_L12N_T1_MRCC_AD5N_15 (io), D16 IO_L9P_T1_DQS_AD11P_15 (io), D17 IO_L9N_T1_DQS_AD11N_15 (io), D18 IO_L11P_T1_SRCC_AD12P_15 (io), E12 IO_L5P_T0_AD2P_15 (io), E13 IO_L17N_T2_15 (io), E14 IO_L15P_T2_DQS_15 (io), E15 IO_L15N_T2_DQS_15 (io), E16 IO_L10P_T1_AD4P_15 (io), E17 IO_L10N_T1_AD4N_15 (io), E18 IO_L16N_T2_15 (io), F13 IO_L17P_T2_15 (io), F14 IO_L13P_T2_MRCC_15 (io), F15 IO_L13N_T2_MRCC_15 (io), F18 IO_L16P_T2_15 (io), G13 IO_0_15 (io), G15 IO_L18N_T2_15 (io), G16 IO_L14P_T2_SRCC_15 (io), G17 IO_L14N_T2_SRCC_15 (io), G18 IO_L21N_T3_DQS_15 (io), H13 IO_L20P_T3_15 (io), H14 IO_L20N_T3_15 (io), H15 IO_L18P_T2_15 (io), H16 IO_L22P_T3_15 (io), H17 IO_L22N_T3_15 (io), H18 IO_L21P_T3_DQS_15 (io), J13 IO_L24P_T3_RS1_15 (io), J14 IO_L24N_T3_RS0_15 (io), J15 IO_L23N_T3_15 (io), J16 IO_L19N_T3_VREF_15 (io), K13 IO_25_15 (io), K14 IO_L23P_T3_15 (io), K16 IO_L19P_T3_15 (io)
part D pins: J6 IO_0_34 (io), K1 IO_L3P_T0_DQS_34 (io), K2 IO_L2N_T0_34 (io), K3 IO_L2P_T0_34 (io), K4 IO_L1P_T0_34 (io), K6 IO_L4P_T0_34 (io), L1 IO_L3N_T0_DQS_34 (io), L4 IO_L1N_T0_34 (io), L5 IO_L5P_T0_34 (io), L6 IO_L4N_T0_34 (io), M1 IO_L8P_T1_34 (io), M2 IO_L7N_T1_34 (io), M3 IO_L7P_T1_34 (io), M4 IO_L5N_T0_34 (io), M5 IO_L6N_T0_VREF_34 (io), M6 IO_L6P_T0_34 (io), N1 IO_L8N_T1_34 (io), N2 IO_L9N_T1_DQS_34 (io), N3 IO_L9P_T1_DQS_34 (io), N4 IO_L10N_T1_34 (io), N5 IO_L10P_T1_34 (io), P1 IO_L11N_T1_SRCC_34 (io), P2 IO_L11P_T1_SRCC_34 (io), P5 IO_L19N_T3_VREF_34 (io), P6 IO_L19P_T3_34 (io), P7 IO_25_34 (io), R1 IO_L12N_T1_MRCC_34 (io), R2 IO_L12P_T1_MRCC_34 (io), R3 IO_L13P_T2_MRCC_34 (io), R4 IO_L18P_T2_34 (io), R5 IO_L21P_T3_DQS_34 (io), R6 IO_L23N_T3_34 (io), R7 IO_L23P_T3_34 (io), T1 IO_L14P_T2_SRCC_34 (io), T2 IO_L13N_T2_MRCC_34 (io), T3 IO_L18N_T2_34 (io), T4 IO_L21N_T3_DQS_34 (io), T5 IO_L22N_T3_34 (io), T6 IO_L22P_T3_34 (io), U1 IO_L14N_T2_SRCC_34 (io), U2 IO_L15N_T2_DQS_34 (io), U3 IO_L15P_T2_DQS_34 (io), U6 IO_L24N_T3_34 (io), U7 IO_L24P_T3_34 (io), V2 IO_L16N_T2_34 (io), V3 IO_L16P_T2_34 (io), V4 IO_L17N_T2_34 (io), V5 IO_L17P_T2_34 (io), V6 IO_L20N_T3_34 (io), V7 IO_L20P_T3_34 (io)
part E pins: A1 GND (power), A2 NC (hiz) hidden, A3 NC (hiz) hidden, A4 NC (hiz) hidden, A5 NC (hiz) hidden, A6 NC (hiz) hidden, A7 NC (hiz) hidden, A8 NC (hiz) hidden, A9 NC (hiz) hidden, A10 NC (hiz) hidden, A11 NC (hiz) hidden, A12 GND (power), A18 GND (power), B1 NC (hiz) hidden, B2 NC (hiz) hidden, B3 NC (hiz) hidden, B4 NC (hiz) hidden, B5 NC (hiz) hidden, B6 NC (hiz) hidden, B7 NC (hiz) hidden, B8 VCCBATT_0 (power), B9 GND (power), B10 NC (hiz) hidden, B11 NC (hiz) hidden, B12 NC (hiz) hidden, C1 NC (hiz) hidden, C2 NC (hiz) hidden, C3 NC (hiz) hidden, C4 NC (hiz) hidden, C5 NC (hiz) hidden, C6 GND (power), C7 NC (hiz) hidden, C9 NC (hiz) hidden, C10 NC (hiz) hidden, C11 NC (hiz) hidden, C12 NC (hiz) hidden, C15 VCCO_15 (power), C16 GND (power), D1 NC (hiz) hidden, D2 NC (hiz) hidden, D3 GND (power), D4 NC (hiz) hidden, D5 NC (hiz) hidden, D6 NC (hiz) hidden, D7 NC (hiz) hidden, D8 VCCO_0 (power), D10 NC (hiz) hidden, D11 NC (hiz) hidden, D13 GND (power), E1 NC (hiz) hidden, E2 NC (hiz) hidden, E3 NC (hiz) hidden, E4 NC (hiz) hidden, E5 NC (hiz) hidden, E6 NC (hiz) hidden, E7 VCCINT (power), E8 GND (power), E9 VCCINT (power), E10 GND (power), E11 VCCINT (power), F1 NC (hiz) hidden, F2 NC (hiz) hidden, F3 NC (hiz) hidden, F4 NC (hiz) hidden, F5 NC (hiz) hidden, F6 NC (hiz) hidden, F7 GND (power), F8 VCCINT (power), F9 GND (power), F10 VCCINT (power), F11 GND (power), F12 VCCAUX (power), F16 VCCO_15 (power), F17 GND (power), G1 NC (hiz) hidden, G2 NC (hiz) hidden, G3 NC (hiz) hidden, G4 GND (power), G5 NC (hiz) hidden, G6 NC (hiz) hidden, G7 VCCINT (power), G8 GND (power), G9 VCCINT (power), G10 GND (power), G11 VCCINT (power), G12 GND (power), G14 GND (power), H1 GND (power), H2 NC (hiz) hidden, H3 NC (hiz) hidden, H4 NC (hiz) hidden, H5 NC (hiz) hidden, H6 NC (hiz) hidden, H7 GND (power), H8 VCCINT (power), H9 GNDADC_0 (power), H10 VCCADC_0 (power), H11 GND (power), H12 VCCAUX (power), J1 NC (hiz) hidden, J2 NC (hiz) hidden, J3 NC (hiz) hidden, J4 NC (hiz) hidden, J5 NC (hiz) hidden, J7 VCCINT (power), J8 GND (power), J11 VCCINT (power), J12 GND (power), J17 VCCO_15 (power), J18 GND (power), K5 GND (power), K7 GND (power), K8 VCCINT (power), K11 GND (power), K12 VCCAUX (power), K15 GND (power), L2 GND (power), L3 VCCO_34 (power), L7 VCCBRAM (power), L8 GND (power), L11 VCCINT (power), L12 GND (power), M7 GND (power), M8 VCCINT (power), M9 GND (power), M10 VCCINT (power), M11 GND (power), M12 VCCAUX (power), N6 GND (power), N7 VCCBRAM (power), N8 GND (power), N9 VCCINT (power), N10 GND (power), N11 VCCINT (power), N12 GND (power), N16 GND (power), N17 VCCO_14 (power), P3 GND (power), P4 VCCO_34 (power), P8 VCCINT (power), P9 GND (power), P10 VCCINT (power), P11 GND (power), P12 VCCAUX (power), R10 GND (power), T7 GND (power), T16 VCCO_14 (power), T17 GND (power), U4 GND (power), U5 VCCO_34 (power), U13 VCCO_14 (power), U14 GND (power), V1 GND (power), V10 VCCO_0 (power), V11 GND (power), V18 GND (power)
part A text: Xilinx Spartan-7 XC7S25-2CSGA324C; BANK 0
part B text: Xilinx Spartan-7 XC7S25-2CSGA324C; HR; BANK 14
part C text: Xilinx Spartan-7 XC7S25-2CSGA324C; HR; BANK 15
part D text: Xilinx Spartan-7 XC7S25-2CSGA324C; HR; BANK 34
part E text: Xilinx Spartan-7 XC7S25-2CSGA324C; Power

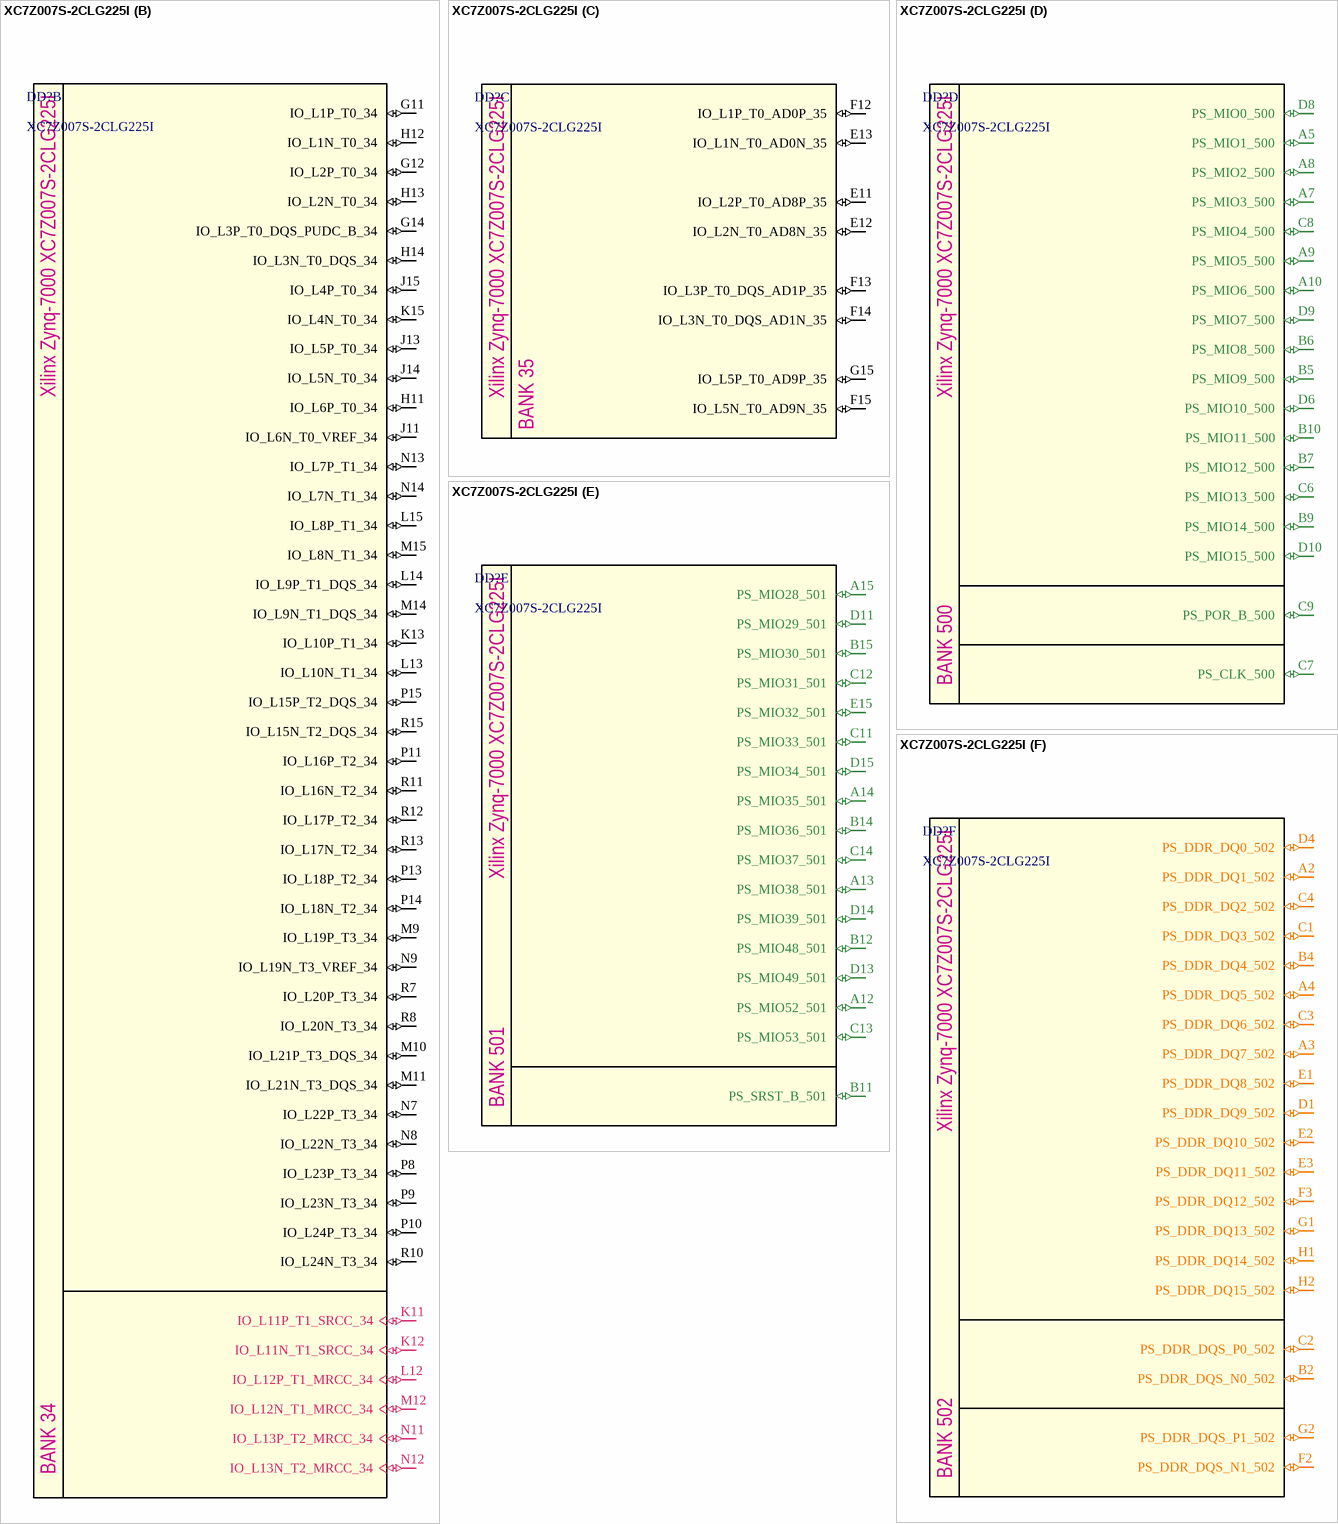
[diagram p13: symbol XC7Z007S-2CLG225I]

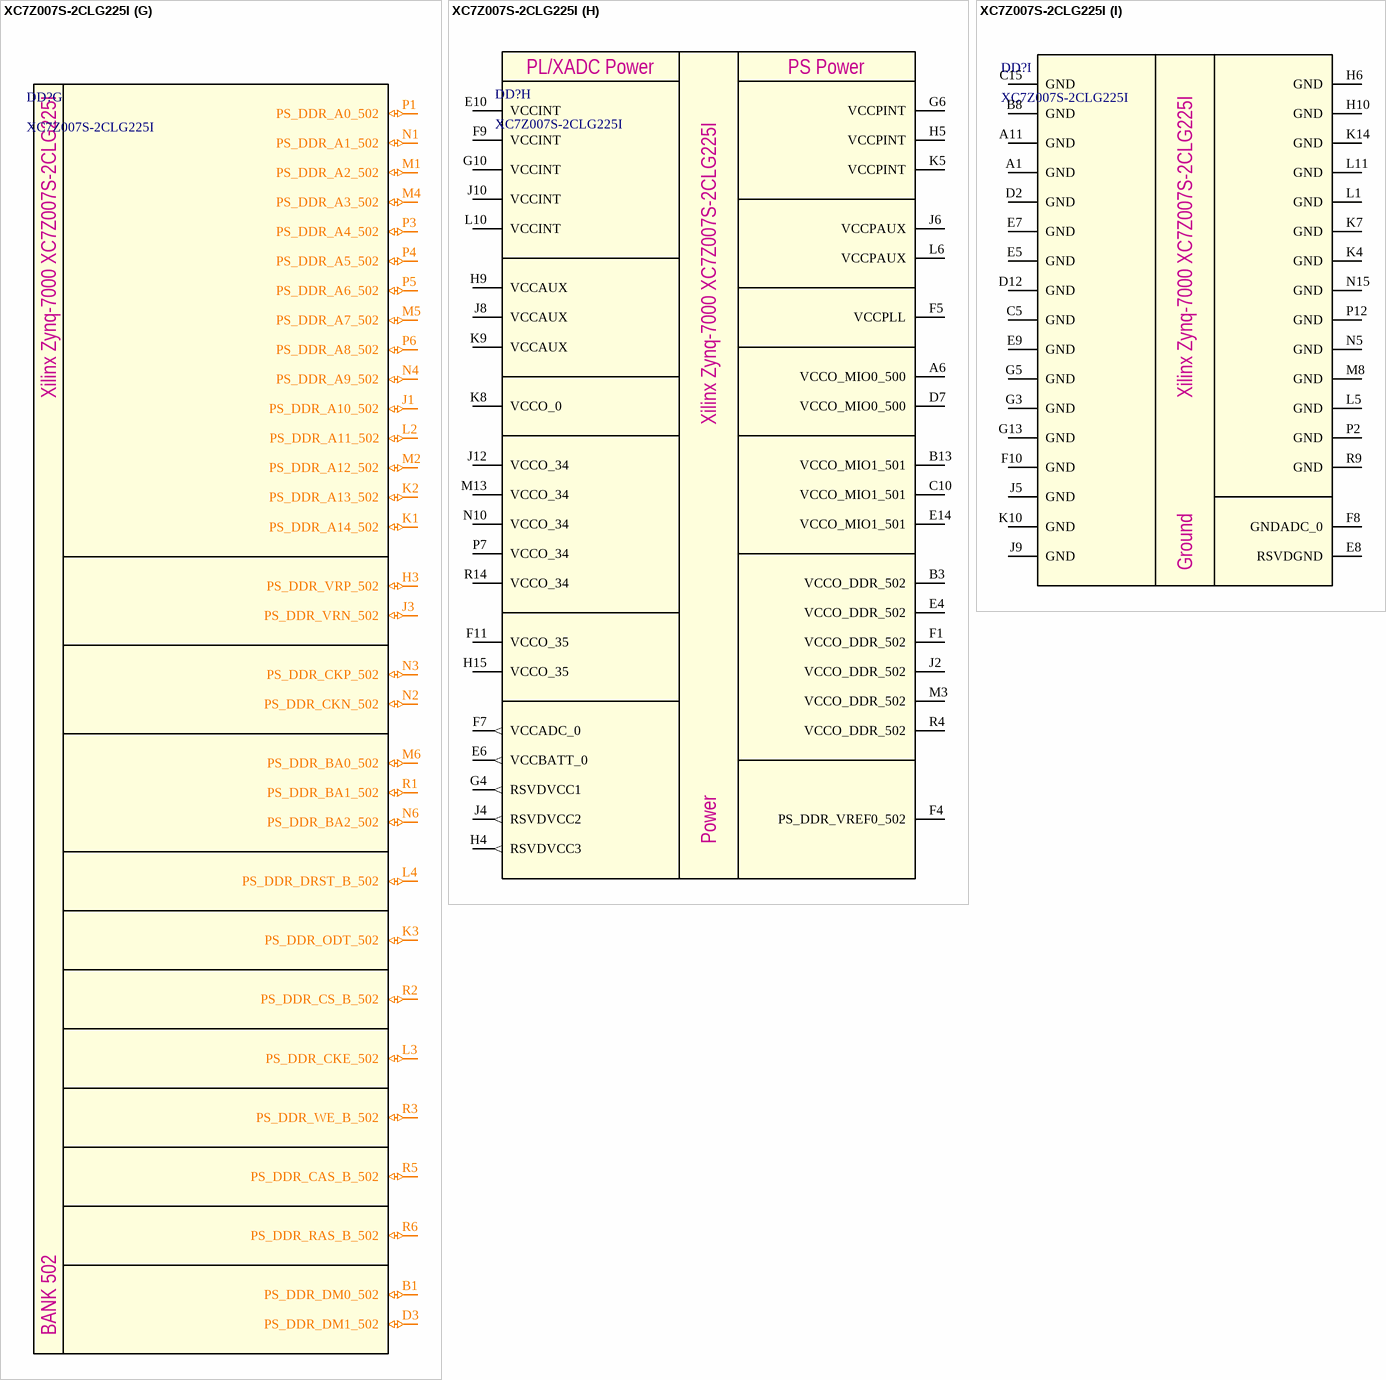
[diagram p14: symbol XC7Z007S-2CLG225I]